# Altium schematic symbol library texas.SCHLIB: 169 symbols (part 2 of 5)
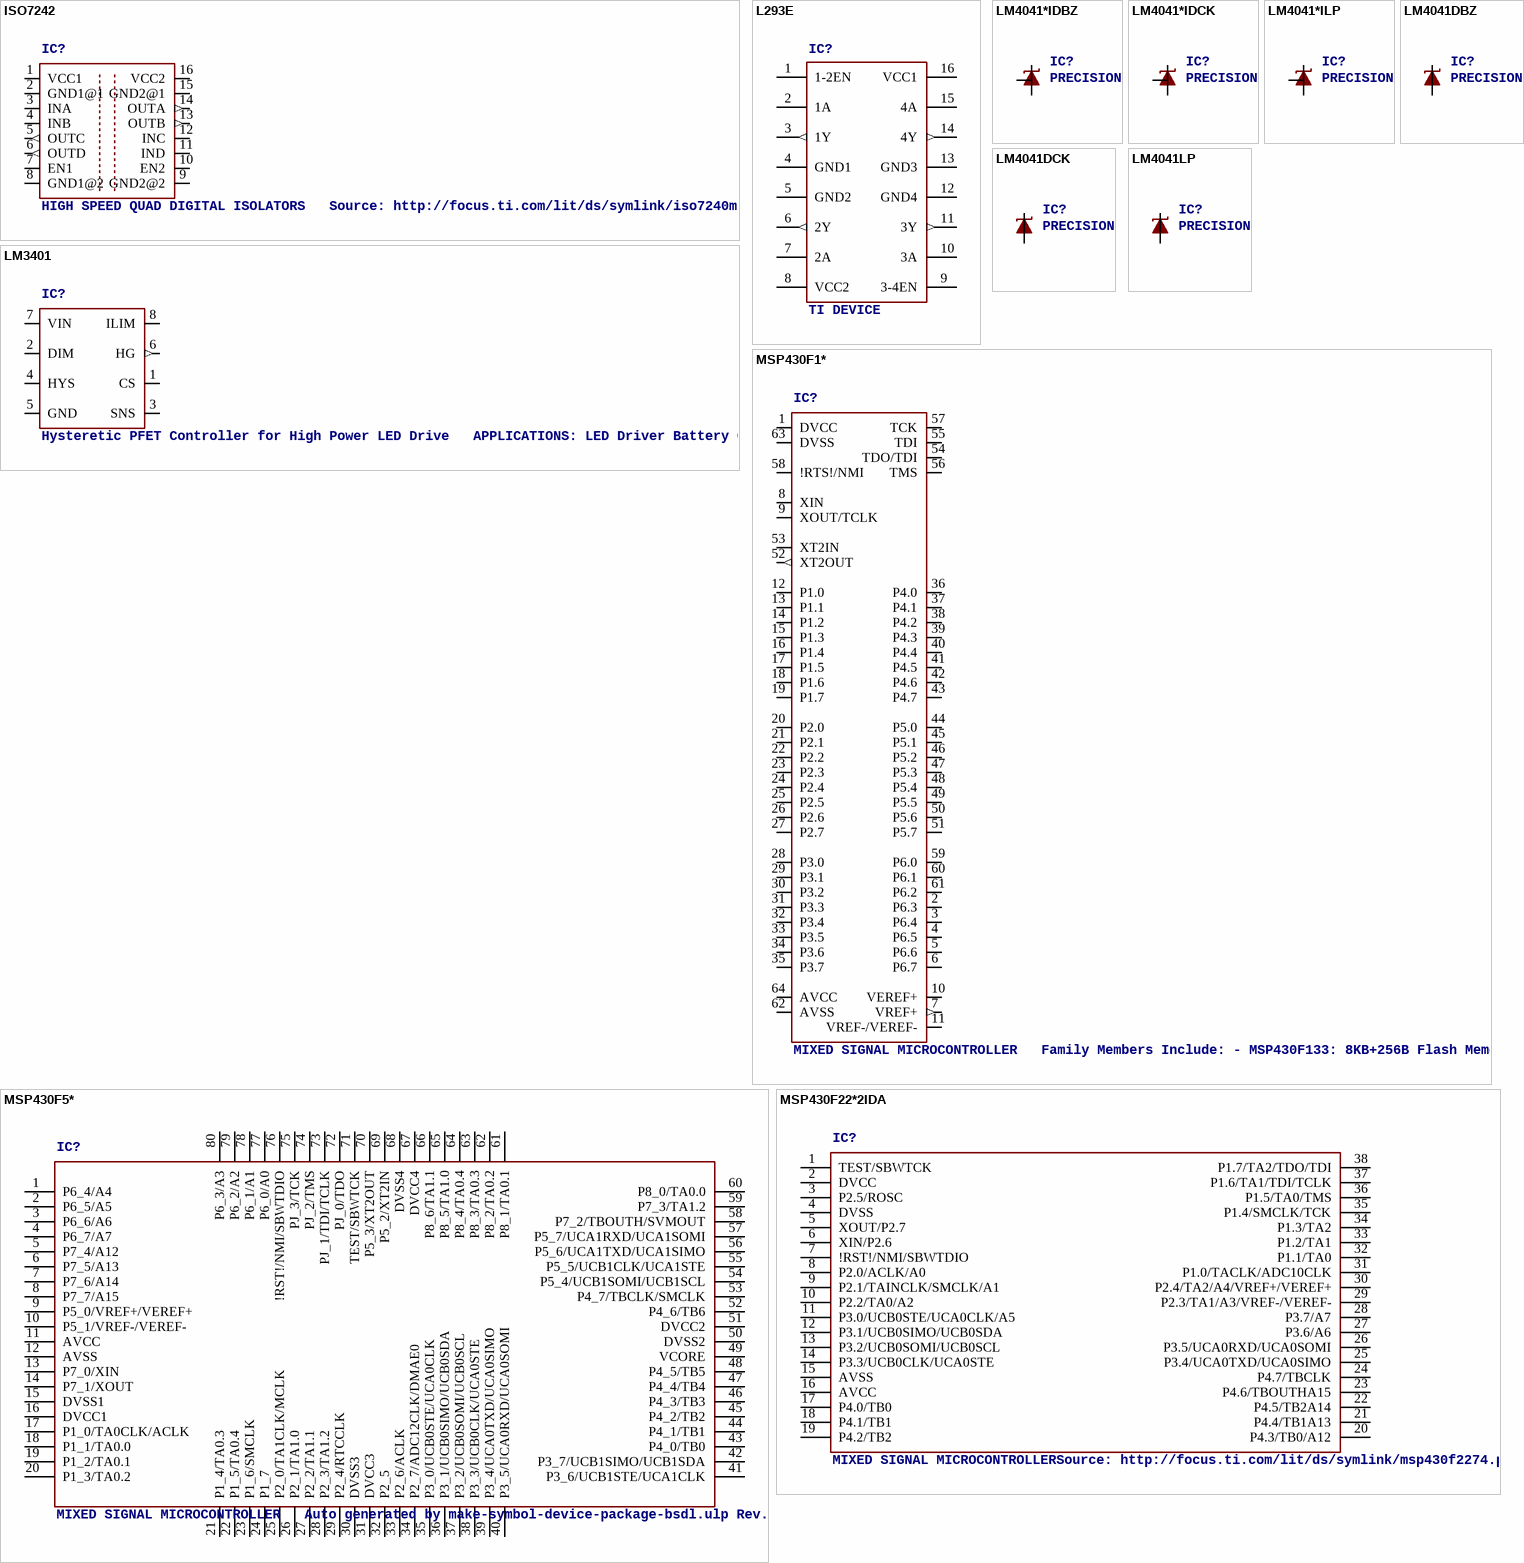
[diagram p32: symbols ISO7242 to MSP430F22*2IDA]

## L293E
designator IC?, comment TI DEVICE
MPN: L293E; MF: Arrow Electronics; OC_FARNELL: 1467711; OC_NEWARK: 89K0732
footprint DIL16
pins: 1 1-2EN, 2 1A, 3 1Y (out), 4 GND1 (power), 5 GND2 (power), 6 2Y (out), 7 2A, 8 VCC2 (power), 9 3-4EN, 10 3A, 11 3Y (out), 12 GND4 (power), 13 GND3 (power), 14 4Y (out), 15 4A, 16 VCC1 (power)

## LM3401
designator IC?, comment Hysteretic PFET Controller for High Power LED Drive   APPLICATIONS: LED Driver Battery Charger   Source: http://www.ti.com/lit/ds/symlink/lm3401.pdf
footprint S-PDSO-G08
pins: 1 CS, 2 DIM, 3 SNS, 4 HYS, 5 GND (power), 6 HG (out), 7 VIN, 8 ILIM

## LM4041*IDBZ
designator IC?, comment PRECISION MICROPOWER SHUNT VOLTAGE REFERENCE Adjustable Output   Source: http://focus.ti.com/lit/ds/slcs146e/slcs146e.pdf
MPN: LM4041CIDBZR; MPN: LM4041DIDBZR; MF: TEXAS INSTRUMENT CONNECTORS; OC_FARNELL: unknown; OC_NEWARK: unknown; OC_NEWARK: 31K7136; OC_FARNELL: 1053788; OC_NEWARK: 31K7146
footprint DBZ_R-PDSO-G3
pins: 1 FB, 2 C, 3 A

## LM4041*IDCK
designator IC?, comment PRECISION MICROPOWER SHUNT VOLTAGE REFERENCE Adjustable Output   Source: http://focus.ti.com/lit/ds/slcs146e/slcs146e.pdf
MPN: LM4041BIDCKRG4; MPN: LM4041CIDCKR; MPN: LM4041DIDCKR; MF: TEXAS INSTRUMENT CONNECTORS; OC_FARNELL: unknown; OC_NEWARK: 41M3455; OC_FARNELL: 1053797; OC_NEWARK: 31K7140; OC_FARNELL: 1053783; OC_NEWARK: 31K7150
footprint DCK_R-PDSO-G5
pins: 2 A, 3 C, 5 FB

## LM4041*ILP
designator IC?, comment PRECISION MICROPOWER SHUNT VOLTAGE REFERENCE Adjustable Output   Source: http://focus.ti.com/lit/ds/slcs146e/slcs146e.pdf
MPN: LM4041CILP; MPN: LM4041DILP; OC_FARNELL: unknown; OC_NEWARK: unknown; OC_FARNELL: 1673945; OC_NEWARK: 50M8856; OC_FARNELL: 9486119; OC_NEWARK: 50M8858
footprint LP_O-PBCY-W3
pins: 1 FB, 2 C, 3 A

## LM4041DBZ
designator IC?, comment PRECISION MICROPOWER SHUNT VOLTAGE REFERENCE   Source: http://focus.ti.com/lit/ds/slcs146e/slcs146e.pdf
MPN: LM4041A12IDBZR; MPN: LM4041B12IDBZR; MPN: LM4041C12QDBZT; MPN: LM4041D12QDBZT; MF: TEXAS INSTRUMENT CONNECTORS; OC_FARNELL: 1407949; OC_NEWARK: 58K5875; OC_FARNELL: 1575212; OC_NEWARK: 58K5882; OC_FARNELL: 1771733; OC_NEWARK: 43K3376; OC_FARNELL: 1755118; OC_NEWARK: 43K3381
footprint DBZ_R-PDSO-G3
pins: 1 C, 2 A

## LM4041DCK
designator IC?, comment PRECISION MICROPOWER SHUNT VOLTAGE REFERENCE   Source: http://focus.ti.com/lit/ds/slcs146e/slcs146e.pdf
MPN: LM4041A12IDCKR; MPN: LM4041B12IDCKR; MPN: LM4041C12IDCKR; MPN: LM4041D12IDCKR; MF: TEXAS INSTRUMENT CONNECTORS; OC_FARNELL: unknown; OC_NEWARK: 58K5877; OC_NEWARK: 58K5884; OC_NEWARK: 43K3374; OC_FARNELL: 1575129; OC_NEWARK: 43K3379
footprint DCK_R-PDSO-G5
pins: 1 A, 3 C

## LM4041LP
designator IC?, comment PRECISION MICROPOWER SHUNT VOLTAGE REFERENCE   Source: http://focus.ti.com/lit/ds/slcs146e/slcs146e.pdf
MPN: LM4041C12ILP; MPN: LM4041D12ILP; OC_FARNELL: 9486119; OC_NEWARK: unknown; OC_FARNELL: unknown; OC_NEWARK: 18M2429; OC_NEWARK: 18M2431
footprint LP_O-PBCY-W3
pins: 2 C, 3 A

## MSP430F1*
designator IC?, comment MIXED SIGNAL MICROCONTROLLER   Family Members Include: - MSP430F133: 8KB+256B Flash Memory, 256B RAM - MSP430F135: 16KB+256B Flash Memory, 512B RAM - MSP430F147, MSP430F1471: 32KB+256B Flash Memory, 1KB RAM - MSP430F148, MSP430F1481: 48KB+256B Flash Memory, 2KB RAM - MSP430F149, MSP430F1491: 60KB+256B Flash Memory, 2KB RAM
MPN: MSP430F133IPM; MPN: MSP430F135IPM; MPN: MSP430F1471IPM; MPN: MSP430F1471IRTDT; MPN: MSP430F1481IPM; MPN: MSP430F1491IRTDT; MPN: MSP430F1491IPM; MF: TEXAS INSTRUMENTS; MF: TEXAS INSTRUMENT CONNECTORS; OC_FARNELL: 1471268; OC_NEWARK: 75C4034; OC_FARNELL: 1106050; OC_NEWARK: 75C4036; OC_FARNELL: 1649389; OC_NEWARK: 95M6746; OC_FARNELL: 1537163; OC_NEWARK: 95M6747; OC_FARNELL: 1649391; OC_NEWARK: 95M6750; OC_FARNELL: 1537170; OC_NEWARK: 95M6752; OC_FARNELL: 1537169; OC_NEWARK: 34K8186
footprint SQFP-S-10X10-64
pins: 1 DVCC (power), 2 P6.3, 3 P6.4, 4 P6.5, 5 P6.6, 6 P6.7, 7 VREF+ (out), 8 XIN, 9 XOUT/TCLK, 10 VEREF+, 11 VREF-/VEREF-, 12 P1.0, 13 P1.1, 14 P1.2, 15 P1.3, 16 P1.4, 17 P1.5, 18 P1.6, 19 P1.7, 20 P2.0, 21 P2.1, 22 P2.2, 23 P2.3, 24 P2.4, 25 P2.5, 26 P2.6, 27 P2.7, 28 P3.0, 29 P3.1, 30 P3.2, 31 P3.3, 32 P3.4, 33 P3.5, 34 P3.6, 35 P3.7, 36 P4.0, 37 P4.1, 38 P4.2, 39 P4.3, 40 P4.4, 41 P4.5, 42 P4.6, 43 P4.7, 44 P5.0, 45 P5.1, 46 P5.2, 47 P5.3, 48 P5.4, 49 P5.5, 50 P5.6, 51 P5.7, 52 XT2OUT (out), 53 XT2IN, 54 TDO/TDI, 55 TDI, 56 TMS, 57 TCK, 58 !RTS!/NMI, 59 P6.0, 60 P6.1, 61 P6.2, 62 AVSS (power), 63 DVSS (power), 64 AVCC (power)

## MSP430F5*
designator IC?, comment MIXED SIGNAL MICROCONTROLLER   Auto generated by make-symbol-device-package-bsdl.ulp Rev. 27 Source: www.ti.com .. msp430f5437.pdf
MPN: MSP430F5418IPN; MPN: MSP430F5418AIPN; MPN: MSP430F5435AIPN; MPN: MSP430F5437IPN; MPN: MSP430F5437AIPN; OC_FARNELL: 1740334; OC_NEWARK: 84R7421; OC_NEWARK: 68R9290; OC_FARNELL: 1740336; OC_NEWARK: 68R9296; OC_FARNELL: 1740339; OC_NEWARK: 87R0103; OC_FARNELL: unknown; OC_NEWARK: 68R9302
footprint PN_S-PQFP-G80
pins: 1 P6_4/A4, 2 P6_5/A5, 3 P6_6/A6, 4 P6_7/A7, 5 P7_4/A12, 6 P7_5/A13, 7 P7_6/A14, 8 P7_7/A15, 9 P5_0/VREF+/VEREF+, 10 P5_1/VREF-/VEREF-, 11 AVCC (power), 12 AVSS (power), 13 P7_0/XIN, 14 P7_1/XOUT, 15 DVSS1 (power), 16 DVCC1 (power), 17 P1_0/TA0CLK/ACLK, 18 P1_1/TA0.0, 19 P1_2/TA0.1, 20 P1_3/TA0.2, 21 P1_4/TA0.3, 22 P1_5/TA0.4, 23 P1_6/SMCLK, 24 P1_7, 25 P2_0/TA1CLK/MCLK, 26 P2_1/TA1.0, 27 P2_2/TA1.1, 28 P2_3/TA1.2, 29 P2_4/RTCCLK, 30 DVSS3 (power), 31 DVCC3 (power), 32 P2_5, 33 P2_6/ACLK, 34 P2_7/ADC12CLK/DMAE0, 35 P3_0/UCB0STE/UCA0CLK, 36 P3_1/UCB0SIMO/UCB0SDA, 37 P3_2/UCB0SOMI/UCB0SCL, 38 P3_3/UCB0CLK/UCA0STE, 39 P3_4/UCA0TXD/UCA0SIMO, 40 P3_5/UCA0RXD/UCA0SOMI, 41 P3_6/UCB1STE/UCA1CLK, 42 P3_7/UCB1SIMO/UCB1SDA, 43 P4_0/TB0, 44 P4_1/TB1, 45 P4_2/TB2, 46 P4_3/TB3, 47 P4_4/TB4, 48 P4_5/TB5, 49 VCORE (power), 50 DVSS2 (power), 51 DVCC2 (power), 52 P4_6/TB6, 53 P4_7/TBCLK/SMCLK, 54 P5_4/UCB1SOMI/UCB1SCL, 55 P5_5/UCB1CLK/UCA1STE, 56 P5_6/UCA1TXD/UCA1SIMO, 57 P5_7/UCA1RXD/UCA1SOMI, 58 P7_2/TBOUTH/SVMOUT, 59 P7_3/TA1.2, 60 P8_0/TA0.0, 61 P8_1/TA0.1, 62 P8_2/TA0.2, 63 P8_3/TA0.3, 64 P8_4/TA0.4, 65 P8_5/TA1.0, 66 P8_6/TA1.1, 67 DVCC4 (power), 68 DVSS4 (power), 69 P5_2/XT2IN, 70 P5_3/XT2OUT, 71 TEST/SBWTCK, 72 PJ_0/TDO, 73 PJ_1/TDI/TCLK, 74 PJ_2/TMS, 75 PJ_3/TCK, 76 !RST!/NMI/SBWTDIO, 77 P6_0/A0, 78 P6_1/A1, 79 P6_2/A2, 80 P6_3/A3

## MSP430F22*2IDA
designator IC?, comment MIXED SIGNAL MICROCONTROLLERSource: http://focus.ti.com/lit/ds/symlink/msp430f2274.pdf
MPN: MSP430F2232IDA; MPN: MSP430F2252IDA; MPN: MSP430F2272IDA; OC_FARNELL: 1610178; OC_NEWARK: 28M6312; OC_FARNELL: 1649421; OC_NEWARK: 28M6328; OC_FARNELL: 1537188; OC_NEWARK: 95M6767
footprint TSSOP38_R-PDSO-G38-DA
pins: 1 TEST/SBWTCK, 2 DVCC (power), 3 P2.5/ROSC, 4 DVSS (power), 5 XOUT/P2.7, 6 XIN/P2.6, 7 !RST!/NMI/SBWTDIO, 8 P2.0/ACLK/A0, 9 P2.1/TAINCLK/SMCLK/A1, 10 P2.2/TA0/A2, 11 P3.0/UCB0STE/UCA0CLK/A5, 12 P3.1/UCB0SIMO/UCB0SDA, 13 P3.2/UCB0SOMI/UCB0SCL, 14 P3.3/UCB0CLK/UCA0STE, 15 AVSS (power), 16 AVCC (power), 17 P4.0/TB0, 18 P4.1/TB1, 19 P4.2/TB2, 20 P4.3/TB0/A12, 21 P4.4/TB1A13, 22 P4.5/TB2A14, 23 P4.6/TBOUTHA15, 24 P4.7/TBCLK, 25 P3.4/UCA0TXD/UCA0SIMO, 26 P3.5/UCA0RXD/UCA0SOMI, 27 P3.6/A6, 28 P3.7/A7, 29 P2.3/TA1/A3/VREF-/VEREF-, 30 P2.4/TA2/A4/VREF+/VEREF+, 31 P1.0/TACLK/ADC10CLK, 32 P1.1/TA0, 33 P1.2/TA1, 34 P1.3/TA2, 35 P1.4/SMCLK/TCK, 36 P1.5/TA0/TMS, 37 P1.6/TA1/TDI/TCLK, 38 P1.7/TA2/TDO/TDI

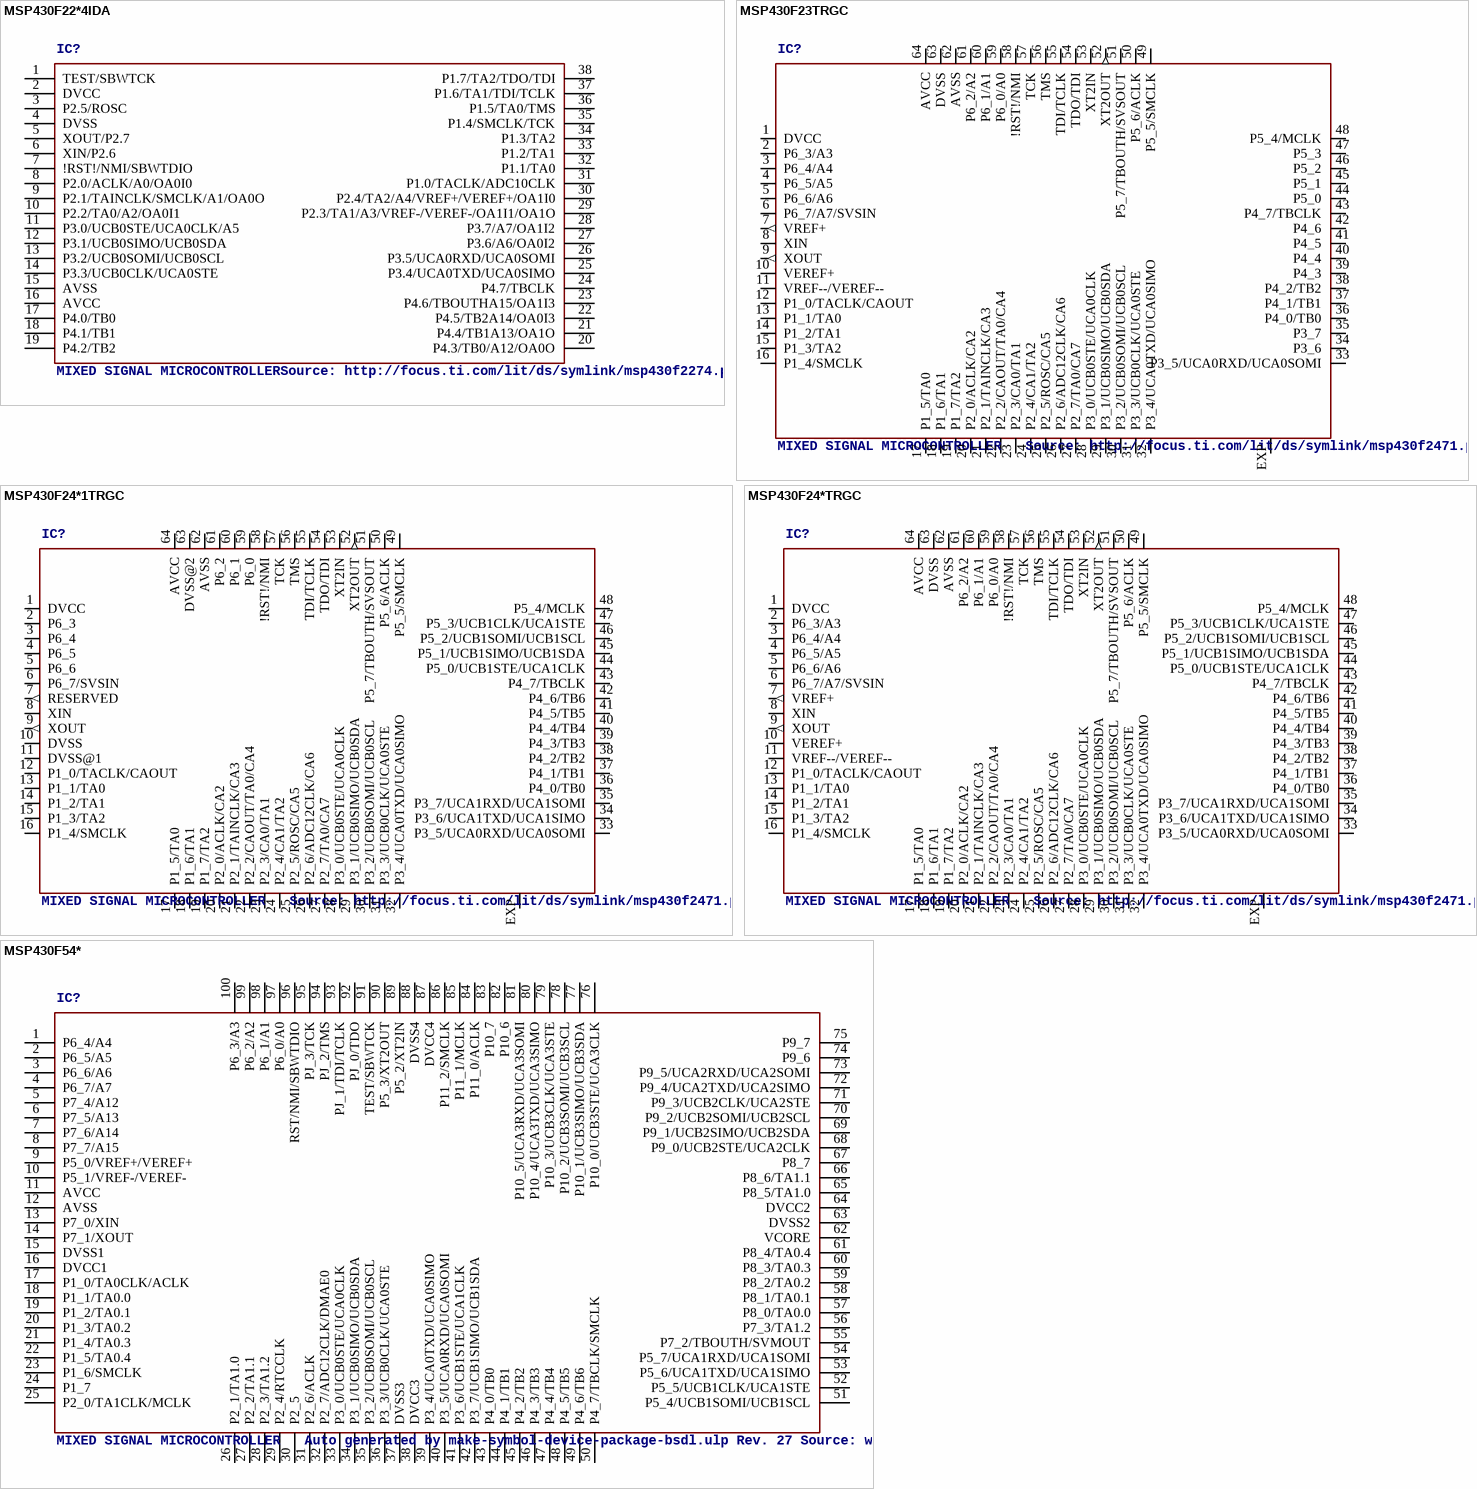
[diagram p10: symbols MSP430F22*4IDA to MSP430F54*]

## MSP430F22*4IDA
designator IC?, comment MIXED SIGNAL MICROCONTROLLERSource: http://focus.ti.com/lit/ds/symlink/msp430f2274.pdf
MPN: MSP430F2234IDA; MPN: MSP430F2254IDA; MPN: MSP430F2274IDA; OC_FARNELL: 1649419; OC_NEWARK: 28M6320; OC_FARNELL: 1649422; OC_NEWARK: 28M6334; OC_FARNELL: 1610179; OC_NEWARK: 28M6350
footprint TSSOP38_R-PDSO-G38-DA
pins: 1 TEST/SBWTCK, 2 DVCC (power), 3 P2.5/ROSC, 4 DVSS (power), 5 XOUT/P2.7, 6 XIN/P2.6, 7 !RST!/NMI/SBWTDIO, 8 P2.0/ACLK/A0/OA0I0, 9 P2.1/TAINCLK/SMCLK/A1/OA0O, 10 P2.2/TA0/A2/OA0I1, 11 P3.0/UCB0STE/UCA0CLK/A5, 12 P3.1/UCB0SIMO/UCB0SDA, 13 P3.2/UCB0SOMI/UCB0SCL, 14 P3.3/UCB0CLK/UCA0STE, 15 AVSS (power), 16 AVCC (power), 17 P4.0/TB0, 18 P4.1/TB1, 19 P4.2/TB2, 20 P4.3/TB0/A12/OA0O, 21 P4.4/TB1A13/OA1O, 22 P4.5/TB2A14/OA0I3, 23 P4.6/TBOUTHA15/OA1I3, 24 P4.7/TBCLK, 25 P3.4/UCA0TXD/UCA0SIMO, 26 P3.5/UCA0RXD/UCA0SOMI, 27 P3.6/A6/OA0I2, 28 P3.7/A7/OA1I2, 29 P2.3/TA1/A3/VREF-/VEREF-/OA1I1/OA1O, 30 P2.4/TA2/A4/VREF+/VEREF+/OA1I0, 31 P1.0/TACLK/ADC10CLK, 32 P1.1/TA0, 33 P1.2/TA1, 34 P1.3/TA2, 35 P1.4/SMCLK/TCK, 36 P1.5/TA0/TMS, 37 P1.6/TA1/TDI/TCLK, 38 P1.7/TA2/TDO/TDI

## MSP430F23TRGC
designator IC?, comment MIXED SIGNAL MICROCONTROLLER   Source: http://focus.ti.com/lit/ds/symlink/msp430f2471.pdf
MPN: MSP430F233TRGCT; MPN: MSP430F235TRGCT; OC_FARNELL: 1649429; OC_NEWARK: 65M1697; OC_FARNELL: 1649433; OC_NEWARK: 65M1700
footprint RGC_S-PVQFV-N64
pins: 1 DVCC (power), 2 P6_3/A3, 3 P6_4/A4, 4 P6_5/A5, 5 P6_6/A6, 6 P6_7/A7/SVSIN, 7 VREF+ (out), 8 XIN, 9 XOUT (out), 10 VEREF+, 11 VREF--/VEREF--, 12 P1_0/TACLK/CAOUT, 13 P1_1/TA0, 14 P1_2/TA1, 15 P1_3/TA2, 16 P1_4/SMCLK, 17 P1_5/TA0, 18 P1_6/TA1, 19 P1_7/TA2, 20 P2_0/ACLK/CA2, 21 P2_1/TAINCLK/CA3, 22 P2_2/CAOUT/TA0/CA4, 23 P2_3/CA0/TA1, 24 P2_4/CA1/TA2, 25 P2_5/ROSC/CA5, 26 P2_6/ADC12CLK/CA6, 27 P2_7/TA0/CA7, 28 P3_0/UCB0STE/UCA0CLK, 29 P3_1/UCB0SIMO/UCB0SDA, 30 P3_2/UCB0SOMI/UCB0SCL, 31 P3_3/UCB0CLK/UCA0STE, 32 P3_4/UCA0TXD/UCA0SIMO, 33 P3_5/UCA0RXD/UCA0SOMI, 34 P3_6, 35 P3_7, 36 P4_0/TB0, 37 P4_1/TB1, 38 P4_2/TB2, 39 P4_3, 40 P4_4, 41 P4_5, 42 P4_6, 43 P4_7/TBCLK, 44 P5_0, 45 P5_1, 46 P5_2, 47 P5_3, 48 P5_4/MCLK, 49 P5_5/SMCLK, 50 P5_6/ACLK, 51 P5_7/TBOUTH/SVSOUT, 52 XT2OUT (out), 53 XT2IN, 54 TDO/TDI, 55 TDI/TCLK, 56 TMS, 57 TCK, 58 !RST!/NMI, 59 P6_0/A0, 60 P6_1/A1, 61 P6_2/A2, 62 AVSS (power), 63 DVSS (power), 64 AVCC (power), EXP

## MSP430F24*1TRGC
designator IC?, comment MIXED SIGNAL MICROCONTROLLER   Source: http://focus.ti.com/lit/ds/symlink/msp430f2471.pdf
MPN: MSP430F2491TRGCT; OC_FARNELL: unknown; OC_NEWARK: unknown; OC_FARNELL: 1753309; OC_FARNELL: 1649447; OC_NEWARK: 65M1728
footprint RGC_S-PVQFV-N64
pins: 1 DVCC (power), 2 P6_3, 3 P6_4, 4 P6_5, 5 P6_6, 6 P6_7/SVSIN, 7 RESERVED (out), 8 XIN, 9 XOUT (out), 10 DVSS, 11 DVSS@1, 12 P1_0/TACLK/CAOUT, 13 P1_1/TA0, 14 P1_2/TA1, 15 P1_3/TA2, 16 P1_4/SMCLK, 17 P1_5/TA0, 18 P1_6/TA1, 19 P1_7/TA2, 20 P2_0/ACLK/CA2, 21 P2_1/TAINCLK/CA3, 22 P2_2/CAOUT/TA0/CA4, 23 P2_3/CA0/TA1, 24 P2_4/CA1/TA2, 25 P2_5/ROSC/CA5, 26 P2_6/ADC12CLK/CA6, 27 P2_7/TA0/CA7, 28 P3_0/UCB0STE/UCA0CLK, 29 P3_1/UCB0SIMO/UCB0SDA, 30 P3_2/UCB0SOMI/UCB0SCL, 31 P3_3/UCB0CLK/UCA0STE, 32 P3_4/UCA0TXD/UCA0SIMO, 33 P3_5/UCA0RXD/UCA0SOMI, 34 P3_6/UCA1TXD/UCA1SIMO, 35 P3_7/UCA1RXD/UCA1SOMI, 36 P4_0/TB0, 37 P4_1/TB1, 38 P4_2/TB2, 39 P4_3/TB3, 40 P4_4/TB4, 41 P4_5/TB5, 42 P4_6/TB6, 43 P4_7/TBCLK, 44 P5_0/UCB1STE/UCA1CLK, 45 P5_1/UCB1SIMO/UCB1SDA, 46 P5_2/UCB1SOMI/UCB1SCL, 47 P5_3/UCB1CLK/UCA1STE, 48 P5_4/MCLK, 49 P5_5/SMCLK, 50 P5_6/ACLK, 51 P5_7/TBOUTH/SVSOUT, 52 XT2OUT (out), 53 XT2IN, 54 TDO/TDI, 55 TDI/TCLK, 56 TMS, 57 TCK, 58 !RST!/NMI, 59 P6_0, 60 P6_1, 61 P6_2, 62 AVSS (power), 63 DVSS@2 (power), 64 AVCC (power), EXP

## MSP430F24*TRGC
designator IC?, comment MIXED SIGNAL MICROCONTROLLER   Source: http://focus.ti.com/lit/ds/symlink/msp430f2471.pdf
MPN: MSP430F2410TRGCT; OC_FARNELL: 1649436; OC_NEWARK: 65M1704; OC_FARNELL: unknown; OC_NEWARK: unknown
footprint RGC_S-PVQFV-N64
pins: 1 DVCC (power), 2 P6_3/A3, 3 P6_4/A4, 4 P6_5/A5, 5 P6_6/A6, 6 P6_7/A7/SVSIN, 7 VREF+ (out), 8 XIN, 9 XOUT (out), 10 VEREF+, 11 VREF--/VEREF--, 12 P1_0/TACLK/CAOUT, 13 P1_1/TA0, 14 P1_2/TA1, 15 P1_3/TA2, 16 P1_4/SMCLK, 17 P1_5/TA0, 18 P1_6/TA1, 19 P1_7/TA2, 20 P2_0/ACLK/CA2, 21 P2_1/TAINCLK/CA3, 22 P2_2/CAOUT/TA0/CA4, 23 P2_3/CA0/TA1, 24 P2_4/CA1/TA2, 25 P2_5/ROSC/CA5, 26 P2_6/ADC12CLK/CA6, 27 P2_7/TA0/CA7, 28 P3_0/UCB0STE/UCA0CLK, 29 P3_1/UCB0SIMO/UCB0SDA, 30 P3_2/UCB0SOMI/UCB0SCL, 31 P3_3/UCB0CLK/UCA0STE, 32 P3_4/UCA0TXD/UCA0SIMO, 33 P3_5/UCA0RXD/UCA0SOMI, 34 P3_6/UCA1TXD/UCA1SIMO, 35 P3_7/UCA1RXD/UCA1SOMI, 36 P4_0/TB0, 37 P4_1/TB1, 38 P4_2/TB2, 39 P4_3/TB3, 40 P4_4/TB4, 41 P4_5/TB5, 42 P4_6/TB6, 43 P4_7/TBCLK, 44 P5_0/UCB1STE/UCA1CLK, 45 P5_1/UCB1SIMO/UCB1SDA, 46 P5_2/UCB1SOMI/UCB1SCL, 47 P5_3/UCB1CLK/UCA1STE, 48 P5_4/MCLK, 49 P5_5/SMCLK, 50 P5_6/ACLK, 51 P5_7/TBOUTH/SVSOUT, 52 XT2OUT (out), 53 XT2IN, 54 TDO/TDI, 55 TDI/TCLK, 56 TMS, 57 TCK, 58 !RST!/NMI, 59 P6_0/A0, 60 P6_1/A1, 61 P6_2/A2, 62 AVSS (power), 63 DVSS (power), 64 AVCC (power), EXP

## MSP430F54*
designator IC?, comment MIXED SIGNAL MICROCONTROLLER   Auto generated by make-symbol-device-package-bsdl.ulp Rev. 27 Source: www.ti.com .. msp430f5437.pdf
MPN: MSP430F5419IPZR; MPN: MSP430F5436IPZ; MPN: MSP430F5436AIPZ; MPN: MSP430F5438IPZ; MPN: MSP430F5438AIPZ; OC_FARNELL: 1740335; OC_NEWARK: 12P7733; OC_FARNELL: unknown; OC_NEWARK: unknown; OC_FARNELL: 1740338; OC_NEWARK: 86R1301; OC_NEWARK: 68R9298; OC_FARNELL: 1740340; OC_NEWARK: 77R3126; OC_NEWARK: 68R9304
footprint PZ_S-PQFP-G100
pins: 1 P6_4/A4, 2 P6_5/A5, 3 P6_6/A6, 4 P6_7/A7, 5 P7_4/A12, 6 P7_5/A13, 7 P7_6/A14, 8 P7_7/A15, 9 P5_0/VREF+/VEREF+, 10 P5_1/VREF-/VEREF-, 11 AVCC (power), 12 AVSS (power), 13 P7_0/XIN, 14 P7_1/XOUT, 15 DVSS1 (power), 16 DVCC1 (power), 17 P1_0/TA0CLK/ACLK, 18 P1_1/TA0.0, 19 P1_2/TA0.1, 20 P1_3/TA0.2, 21 P1_4/TA0.3, 22 P1_5/TA0.4, 23 P1_6/SMCLK, 24 P1_7, 25 P2_0/TA1CLK/MCLK, 26 P2_1/TA1.0, 27 P2_2/TA1.1, 28 P2_3/TA1.2, 29 P2_4/RTCCLK, 30 P2_5, 31 P2_6/ACLK, 32 P2_7/ADC12CLK/DMAE0, 33 P3_0/UCB0STE/UCA0CLK, 34 P3_1/UCB0SIMO/UCB0SDA, 35 P3_2/UCB0SOMI/UCB0SCL, 36 P3_3/UCB0CLK/UCA0STE, 37 DVSS3 (power), 38 DVCC3 (power), 39 P3_4/UCA0TXD/UCA0SIMO, 40 P3_5/UCA0RXD/UCA0SOMI, 41 P3_6/UCB1STE/UCA1CLK, 42 P3_7/UCB1SIMO/UCB1SDA, 43 P4_0/TB0, 44 P4_1/TB1, 45 P4_2/TB2, 46 P4_3/TB3, 47 P4_4/TB4, 48 P4_5/TB5, 49 P4_6/TB6, 50 P4_7/TBCLK/SMCLK, 51 P5_4/UCB1SOMI/UCB1SCL, 52 P5_5/UCB1CLK/UCA1STE, 53 P5_6/UCA1TXD/UCA1SIMO, 54 P5_7/UCA1RXD/UCA1SOMI, 55 P7_2/TBOUTH/SVMOUT, 56 P7_3/TA1.2, 57 P8_0/TA0.0, 58 P8_1/TA0.1, 59 P8_2/TA0.2, 60 P8_3/TA0.3, 61 P8_4/TA0.4, 62 VCORE (power), 63 DVSS2 (power), 64 DVCC2 (power), 65 P8_5/TA1.0, 66 P8_6/TA1.1, 67 P8_7, 68 P9_0/UCB2STE/UCA2CLK, 69 P9_1/UCB2SIMO/UCB2SDA, 70 P9_2/UCB2SOMI/UCB2SCL, 71 P9_3/UCB2CLK/UCA2STE, 72 P9_4/UCA2TXD/UCA2SIMO, 73 P9_5/UCA2RXD/UCA2SOMI, 74 P9_6, 75 P9_7, 76 P10_0/UCB3STE/UCA3CLK, 77 P10_1/UCB3SIMO/UCB3SDA, 78 P10_2/UCB3SOMI/UCB3SCL, 79 P10_3/UCB3CLK/UCA3STE, 80 P10_4/UCA3TXD/UCA3SIMO, 81 P10_5/UCA3RXD/UCA3SOMI, 82 P10_6, 83 P10_7, 84 P11_0/ACLK, 85 P11_1/MCLK, 86 P11_2/SMCLK, 87 DVCC4 (power), 88 DVSS4 (power), 89 P5_2/XT2IN, 90 P5_3/XT2OUT, 91 TEST/SBWTCK, 92 PJ_0/TDO, 93 PJ_1/TDI/TCLK, 94 PJ_2/TMS, 95 PJ_3/TCK, 96 RST/NMI/SBWTDIO, 97 P6_0/A0, 98 P6_1/A1, 99 P6_2/A2, 100 P6_3/A3

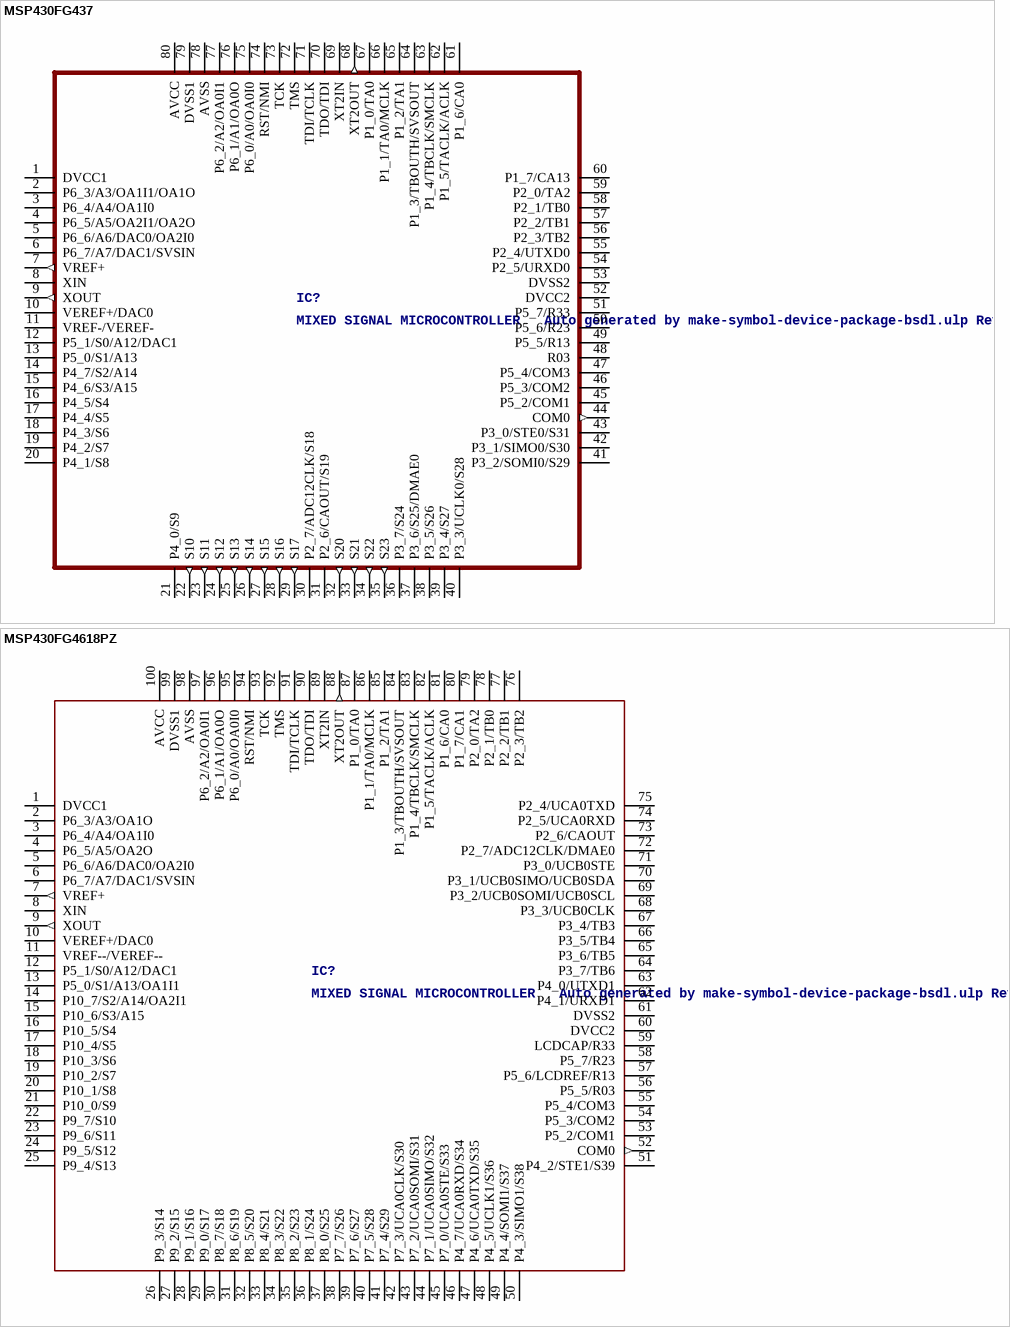
[diagram p11: symbols MSP430FG437 to MSP430FG4618PZ]

## MSP430FG437
designator IC?, comment MIXED SIGNAL MICROCONTROLLER   Auto generated by make-symbol-device-package-bsdl.ulp Rev. 29 Source: http://focus.ti.com/lit/ds/symlink/msp430fg437.pdf
MPN: MSP430FG437IPN; OC_FARNELL: 1471275; OC_NEWARK: 61M7844
footprint PN_S-PQFP-G80
pins: 1 DVCC1 (power), 2 P6_3/A3/OA1I1/OA1O, 3 P6_4/A4/OA1I0, 4 P6_5/A5/OA2I1/OA2O, 5 P6_6/A6/DAC0/OA2I0, 6 P6_7/A7/DAC1/SVSIN, 7 VREF+ (out), 8 XIN, 9 XOUT (out), 10 VEREF+/DAC0, 11 VREF-/VEREF-, 12 P5_1/S0/A12/DAC1, 13 P5_0/S1/A13, 14 P4_7/S2/A14, 15 P4_6/S3/A15, 16 P4_5/S4, 17 P4_4/S5, 18 P4_3/S6, 19 P4_2/S7, 20 P4_1/S8, 21 P4_0/S9, 22 S10 (out), 23 S11 (out), 24 S12 (out), 25 S13 (out), 26 S14 (out), 27 S15 (out), 28 S16 (out), 29 S17 (out), 30 P2_7/ADC12CLK/S18, 31 P2_6/CAOUT/S19, 32 S20 (out), 33 S21 (out), 34 S22 (out), 35 S23 (out), 36 P3_7/S24, 37 P3_6/S25/DMAE0, 38 P3_5/S26, 39 P3_4/S27, 40 P3_3/UCLK0/S28, 41 P3_2/SOMI0/S29, 42 P3_1/SIMO0/S30, 43 P3_0/STE0/S31, 44 COM0 (out), 45 P5_2/COM1, 46 P5_3/COM2, 47 P5_4/COM3, 48 R03, 49 P5_5/R13, 50 P5_6/R23, 51 P5_7/R33, 52 DVCC2 (power), 53 DVSS2 (power), 54 P2_5/URXD0, 55 P2_4/UTXD0, 56 P2_3/TB2, 57 P2_2/TB1, 58 P2_1/TB0, 59 P2_0/TA2, 60 P1_7/CA13, 61 P1_6/CA0, 62 P1_5/TACLK/ACLK, 63 P1_4/TBCLK/SMCLK, 64 P1_3/TBOUTH/SVSOUT, 65 P1_2/TA1, 66 P1_1/TA0/MCLK, 67 P1_0/TA0, 68 XT2OUT (out), 69 XT2IN, 70 TDO/TDI, 71 TDI/TCLK, 72 TMS, 73 TCK, 74 RST/NMI, 75 P6_0/A0/OA0I0, 76 P6_1/A1/OA0O, 77 P6_2/A2/OA0I1, 78 AVSS (power), 79 DVSS1 (power), 80 AVCC (power)

## MSP430FG4618PZ
designator IC?, comment MIXED SIGNAL MICROCONTROLLER   Auto generated by make-symbol-device-package-bsdl.ulp Rev. 19 Source: http://focus.ti.com/docs/prod/folders/print/msp430fg4618.html
MPN: MSP430FG4618IPZ; OC_FARNELL: 1470488; OC_NEWARK: 22M1151
footprint TQFP100
pins: 1 DVCC1 (power), 2 P6_3/A3/OA1O, 3 P6_4/A4/OA1I0, 4 P6_5/A5/OA2O, 5 P6_6/A6/DAC0/OA2I0, 6 P6_7/A7/DAC1/SVSIN, 7 VREF+ (out), 8 XIN, 9 XOUT (out), 10 VEREF+/DAC0, 11 VREF--/VEREF--, 12 P5_1/S0/A12/DAC1, 13 P5_0/S1/A13/OA1I1, 14 P10_7/S2/A14/OA2I1, 15 P10_6/S3/A15, 16 P10_5/S4, 17 P10_4/S5, 18 P10_3/S6, 19 P10_2/S7, 20 P10_1/S8, 21 P10_0/S9, 22 P9_7/S10, 23 P9_6/S11, 24 P9_5/S12, 25 P9_4/S13, 26 P9_3/S14, 27 P9_2/S15, 28 P9_1/S16, 29 P9_0/S17, 30 P8_7/S18, 31 P8_6/S19, 32 P8_5/S20, 33 P8_4/S21, 34 P8_3/S22, 35 P8_2/S23, 36 P8_1/S24, 37 P8_0/S25, 38 P7_7/S26, 39 P7_6/S27, 40 P7_5/S28, 41 P7_4/S29, 42 P7_3/UCA0CLK/S30, 43 P7_2/UCA0SOMI/S31, 44 P7_1/UCA0SIMO/S32, 45 P7_0/UCA0STE/S33, 46 P4_7/UCA0RXD/S34, 47 P4_6/UCA0TXD/S35, 48 P4_5/UCLK1/S36, 49 P4_4/SOMI1/S37, 50 P4_3/SIMO1/S38, 51 P4_2/STE1/S39, 52 COM0 (out), 53 P5_2/COM1, 54 P5_3/COM2, 55 P5_4/COM3, 56 P5_5/R03, 57 P5_6/LCDREF/R13, 58 P5_7/R23, 59 LCDCAP/R33, 60 DVCC2 (power), 61 DVSS2 (power), 62 P4_1/URXD1, 63 P4_0/UTXD1, 64 P3_7/TB6, 65 P3_6/TB5, 66 P3_5/TB4, 67 P3_4/TB3, 68 P3_3/UCB0CLK, 69 P3_2/UCB0SOMI/UCB0SCL, 70 P3_1/UCB0SIMO/UCB0SDA, 71 P3_0/UCB0STE, 72 P2_7/ADC12CLK/DMAE0, 73 P2_6/CAOUT, 74 P2_5/UCA0RXD, 75 P2_4/UCA0TXD, 76 P2_3/TB2, 77 P2_2/TB1, 78 P2_1/TB0, 79 P2_0/TA2, 80 P1_7/CA1, 81 P1_6/CA0, 82 P1_5/TACLK/ACLK, 83 P1_4/TBCLK/SMCLK, 84 P1_3/TBOUTH/SVSOUT, 85 P1_2/TA1, 86 P1_1/TA0/MCLK, 87 P1_0/TA0, 88 XT2OUT (out), 89 XT2IN, 90 TDO/TDI, 91 TDI/TCLK, 92 TMS, 93 TCK, 94 RST/NMI, 95 P6_0/A0/OA0I0, 96 P6_1/A1/OA0O, 97 P6_2/A2/OA0I1, 98 AVSS (power), 99 DVSS1 (power), 100 AVCC (power)

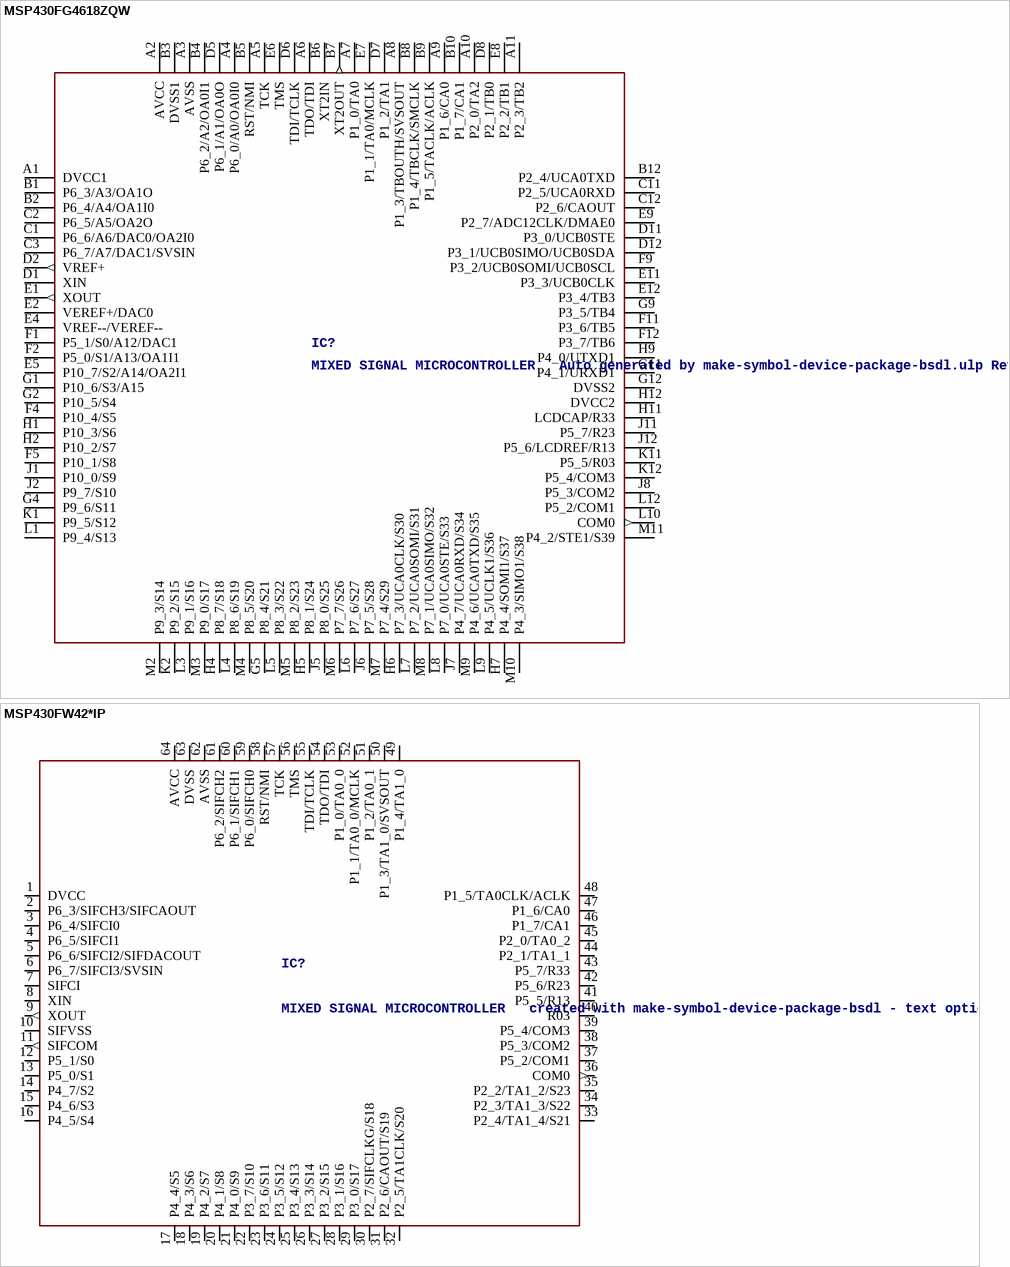
[diagram p12: symbols MSP430FG4618ZQW to MSP430FW42*IP]

## MSP430FG4618ZQW
designator IC?, comment MIXED SIGNAL MICROCONTROLLER   Auto generated by make-symbol-device-package-bsdl.ulp Rev. 19 Source: http://focus.ti.com/docs/prod/folders/print/msp430fg4618.html
MPN: MSP430FG4618IZQW; OC_FARNELL: unknown; OC_NEWARK: 61M7852
footprint S-PBGA-N113
pins: A1 DVCC1 (power), A2 AVCC (power), A3 AVSS (power), A4 P6_0/A0/OA0I0, A5 TCK, A6 TDO/TDI, A7 P1_0/TA0, A8 P1_3/TBOUTH/SVSOUT, A9 P1_6/CA0, A10 P2_0/TA2, A11 P2_3/TB2, B1 P6_3/A3/OA1O, B2 P6_4/A4/OA1I0, B3 DVSS1 (power), B4 P6_2/A2/OA0I1, B5 RST/NMI, B6 XT2IN, B7 XT2OUT (out), B8 P1_4/TBCLK/SMCLK, B9 P1_5/TACLK/ACLK, B10 P1_7/CA1, B12 P2_4/UCA0TXD, C1 P6_6/A6/DAC0/OA2I0, C2 P6_5/A5/OA2O, C3 P6_7/A7/DAC1/SVSIN, C11 P2_5/UCA0RXD, C12 P2_6/CAOUT, D1 XIN, D2 VREF+ (out), D5 P6_1/A1/OA0O, D6 TDI/TCLK, D7 P1_2/TA1, D8 P2_1/TB0, D11 P3_0/UCB0STE, D12 P3_1/UCB0SIMO/UCB0SDA, E1 XOUT (out), E2 VEREF+/DAC0, E4 VREF--/VEREF--, E5 P10_7/S2/A14/OA2I1, E6 TMS, E7 P1_1/TA0/MCLK, E8 P2_2/TB1, E9 P2_7/ADC12CLK/DMAE0, E11 P3_3/UCB0CLK, E12 P3_4/TB3, F1 P5_1/S0/A12/DAC1, F2 P5_0/S1/A13/OA1I1, F4 P10_4/S5, F5 P10_1/S8, F9 P3_2/UCB0SOMI/UCB0SCL, F11 P3_6/TB5, F12 P3_7/TB6, G1 P10_6/S3/A15, G2 P10_5/S4, G4 P9_6/S11, G5 P8_4/S21, G9 P3_5/TB4, G11 P4_1/URXD1, G12 DVSS2 (power), H1 P10_3/S6, H2 P10_2/S7, H4 P8_7/S18, H5 P8_1/S24, H6 P7_3/UCA0CLK/S30, H7 P4_4/SOMI1/S37, H9 P4_0/UTXD1, H11 LCDCAP/R33, H12 DVCC2 (power), J1 P10_0/S9, J2 P9_7/S10, J5 P8_0/S25, J6 P7_5/S28, J7 P4_7/UCA0RXD/S34, J8 P5_3/COM2, J11 P5_7/R23, J12 P5_6/LCDREF/R13, K1 P9_5/S12, K2 P9_2/S15, K11 P5_5/R03, K12 P5_4/COM3, L1 P9_4/S13, L3 P9_1/S16, L4 P8_6/S19, L5 P8_3/S22, L6 P7_6/S27, L7 P7_2/UCA0SOMI/S31, L8 P7_0/UCA0STE/S33, L9 P4_5/UCLK1/S36, L10 COM0 (out), L12 P5_2/COM1, M2 P9_3/S14, M3 P9_0/S17, M4 P8_5/S20, M5 P8_2/S23, M6 P7_7/S26, M7 P7_4/S29, M8 P7_1/UCA0SIMO/S32, M9 P4_6/UCA0TXD/S35, M10 P4_3/SIMO1/S38, M11 P4_2/STE1/S39

## MSP430FW42*IP
designator IC?, comment MIXED SIGNAL MICROCONTROLLER   created with make-symbol-device-package-bsdl - text option Source: www.ti.com .. MSP430 Microcontroller.pdf
OC_FARNELL: unknown; OC_NEWARK: unknown
footprint SQFP-S-10X10-64
pins: 1 DVCC (power), 2 P6_3/SIFCH3/SIFCAOUT, 3 P6_4/SIFCI0, 4 P6_5/SIFCI1, 5 P6_6/SIFCI2/SIFDACOUT, 6 P6_7/SIFCI3/SVSIN, 7 SIFCI, 8 XIN, 9 XOUT (out), 10 SIFVSS, 11 SIFCOM (out), 12 P5_1/S0, 13 P5_0/S1, 14 P4_7/S2, 15 P4_6/S3, 16 P4_5/S4, 17 P4_4/S5, 18 P4_3/S6, 19 P4_2/S7, 20 P4_1/S8, 21 P4_0/S9, 22 P3_7/S10, 23 P3_6/S11, 24 P3_5/S12, 25 P3_4/S13, 26 P3_3/S14, 27 P3_2/S15, 28 P3_1/S16, 29 P3_0/S17, 30 P2_7/SIFCLKG/S18, 31 P2_6/CAOUT/S19, 32 P2_5/TA1CLK/S20, 33 P2_4/TA1_4/S21, 34 P2_3/TA1_3/S22, 35 P2_2/TA1_2/S23, 36 COM0 (out), 37 P5_2/COM1, 38 P5_3/COM2, 39 P5_4/COM3, 40 R03, 41 P5_5/R13, 42 P5_6/R23, 43 P5_7/R33, 44 P2_1/TA1_1, 45 P2_0/TA0_2, 46 P1_7/CA1, 47 P1_6/CA0, 48 P1_5/TA0CLK/ACLK, 49 P1_4/TA1_0, 50 P1_3/TA1_0/SVSOUT, 51 P1_2/TA0_1, 52 P1_1/TA0_0/MCLK, 53 P1_0/TA0_0, 54 TDO/TDI, 55 TDI/TCLK, 56 TMS, 57 TCK, 58 RST/NMI, 59 P6_0/SIFCH0, 60 P6_1/SIFCH1, 61 P6_2/SIFCH2, 62 AVSS (power), 63 DVSS (power), 64 AVCC (power)

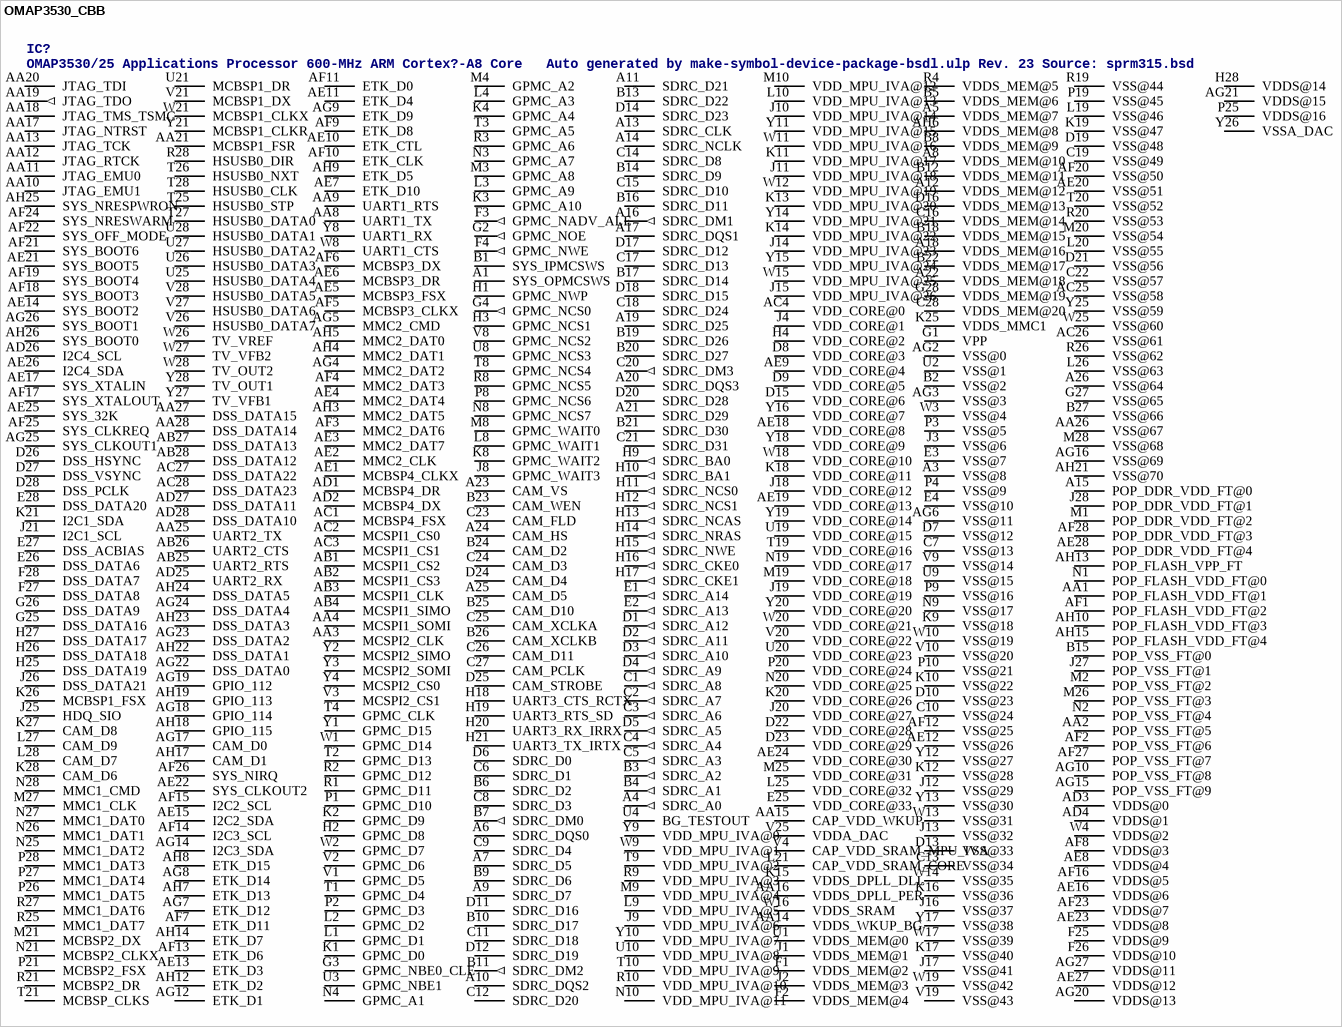
[diagram p13: symbol OMAP3530_CBB]

## OMAP3530_CBB
designator IC?, comment OMAP3530/25 Applications Processor 600-MHz ARM Cortex?-A8 Core   Auto generated by make-symbol-device-package-bsdl.ulp Rev. 23 Source: sprm315.bsd
OC_FARNELL: 1660215; OC_NEWARK: unknown
footprint CBB
pins: A1 SYS_OPMCSWS, A3 VSS@8 (power), A4 SDRC_A0 (out), A5 VDDS_MEM@7 (power), A6 SDRC_DQS0, A7 SDRC_D5, A8 VDDS_MEM@10 (power), A9 SDRC_D7, A10 SDRC_DQS2, A11 SDRC_D21, A12 VDDS_MEM@12 (power), A13 SDRC_CLK, A14 SDRC_NCLK, A15 POP_DDR_VDD_FT@0 (power), A16 SDRC_DM1 (out), A17 SDRC_DQS1, A18 VDDS_MEM@16 (power), A19 SDRC_D25, A20 SDRC_DQS3, A21 SDRC_D29, A22 VDDS_MEM@18 (power), A23 CAM_VS, A24 CAM_HS, A25 CAM_D5, A26 VSS@64 (power), AA1 POP_FLASH_VDD_FT@1 (power), AA2 POP_VSS_FT@5 (power), AA3 MCSPI2_CLK, AA4 MCSPI1_SOMI, AA8 UART1_TX, AA9 UART1_RTS, AA10 JTAG_EMU1, AA11 JTAG_EMU0, AA12 JTAG_RTCK, AA13 JTAG_TCK, AA14 VDDS_WKUP_BG (power), AA15 CAP_VDD_WKUP (power), AA16 VDDS_DPLL_PER (power), AA17 JTAG_NTRST, AA18 JTAG_TMS_TSMC, AA19 JTAG_TDO (out), AA20 JTAG_TDI, AA21 MCBSP1_FSR, AA25 UART2_TX, AA26 VSS@67 (power), AA27 DSS_DATA15, AA28 DSS_DATA14, AB1 MCSPI1_CS2, AB2 MCSPI1_CS3, AB3 MCSPI1_CLK, AB4 MCSPI1_SIMO, AB25 UART2_RTS, AB26 UART2_CTS, AB27 DSS_DATA13, AB28 DSS_DATA12, AC1 MCBSP4_FSX, AC2 MCSPI1_CS0, AC3 MCSPI1_CS1, AC4 VDD_CORE@0 (power), AC25 VSS@58 (power), AC26 VSS@61 (power), AC27 DSS_DATA22, AC28 DSS_DATA23, AD1 MCBSP4_DR, AD2 MCBSP4_DX, AD3 VDDS@0 (power), AD4 VDDS@1 (power), AD25 UART2_RX, AD26 I2C4_SCL, AD27 DSS_DATA11, AD28 DSS_DATA10, AE1 MCBSP4_CLKX, AE2 MMC2_CLK, AE3 MMC2_DAT7, AE4 MMC2_DAT4, AE5 MCBSP3_FSX, AE6 MCBSP3_DR, AE7 ETK_D10, AE8 VDDS@4 (power), AE9 VDD_CORE@4 (power), AE10 ETK_CTL, AE11 ETK_D4, AE12 VSS@26 (power), AE13 ETK_D3, AE14 SYS_BOOT2, AE15 I2C2_SDA, AE16 VDDS@6 (power), AE17 SYS_XTALIN, AE18 VDD_CORE@8 (power), AE19 VDD_CORE@13 (power), AE20 VSS@51 (power), AE21 SYS_BOOT5, AE22 SYS_CLKOUT2, AE23 VDDS@8 (power), AE24 VDD_CORE@30 (power), AE25 SYS_32K, AE26 I2C4_SDA, AE27 VDDS@12 (power), AE28 POP_DDR_VDD_FT@4 (power), AF1 POP_FLASH_VDD_FT@2 (power), AF2 POP_VSS_FT@6 (power), AF3 MMC2_DAT6, AF4 MMC2_DAT3, AF5 MCBSP3_CLKX, AF6 MCBSP3_DX, AF7 ETK_D11, AF8 VDDS@3 (power), AF9 ETK_D8, AF10 ETK_CLK, AF11 ETK_D0, AF12 VSS@25 (power), AF13 ETK_D6, AF14 I2C3_SCL, AF15 I2C2_SCL, AF16 VDDS@5 (power), AF17 SYS_XTALOUT, AF18 SYS_BOOT3, AF19 SYS_BOOT4, AF20 VSS@50 (power), AF21 SYS_BOOT6, AF22 SYS_OFF_MODE, AF23 VDDS@7 (power), AF24 SYS_NRESWARM, AF25 SYS_CLKREQ, AF26 SYS_NIRQ, AF27 POP_VSS_FT@7 (power), AF28 POP_DDR_VDD_FT@3 (power), AG2 VSS@0 (power), AG3 VSS@3 (power), AG4 MMC2_DAT2, AG5 MMC2_CMD, AG6 VSS@11 (power), AG7 ETK_D12, AG8 ETK_D14, AG9 ETK_D9, AG10 POP_VSS_FT@8 (power), AG12 ETK_D1, AG14 I2C3_SDA, AG15 POP_VSS_FT@9 (power), AG16 VSS@69 (power), AG17 CAM_D0, AG18 GPIO_114, AG19 GPIO_112, AG20 VDDS@13 (power), AG21 VDDS@15 (power), AG22 DSS_DATA0, AG23 DSS_DATA2, AG24 DSS_DATA4, AG25 SYS_CLKOUT1, AG26 SYS_BOOT1, AG27 VDDS@11 (power), AH3 MMC2_DAT5, AH4 MMC2_DAT1, AH5 MMC2_DAT0, AH6 VDDS_MEM@8 (power), AH7 ETK_D13, AH8 ETK_D15, AH9 ETK_D5, AH10 POP_FLASH_VDD_FT@3 (power), AH12 ETK_D2, AH13 POP_FLASH_VPP_FT, AH14 ETK_D7, AH15 POP_FLASH_VDD_FT@4 (power), AH17 CAM_D1, AH18 GPIO_115, AH19 GPIO_113, AH21 VSS@70 (power), AH22 DSS_DATA1, AH23 DSS_DATA3, AH24 DSS_DATA5, AH25 SYS_NRESPWRON, AH26 SYS_BOOT0, B1 SYS_IPMCSWS, B2 VSS@2 (power), B3 SDRC_A2 (out), B4 SDRC_A1 (out), B5 VDDS_MEM@6 (power), B6 SDRC_D2, B7 SDRC_DM0 (out), B8 VDDS_MEM@9 (power), B9 SDRC_D6, B10 SDRC_D17, B11 SDRC_DM2 (out), B12 VDDS_MEM@11 (power), B13 SDRC_D22, B14 SDRC_D9, B15 POP_VSS_FT@0 (power), B16 SDRC_D11, B17 SDRC_D14, B18 VDDS_MEM@15 (power), B19 SDRC_D26, B20 SDRC_D27, B21 SDRC_D30, B22 VDDS_MEM@17 (power), B23 CAM_WEN, B24 CAM_D2, B25 CAM_D10, B26 CAM_XCLKB, B27 VSS@66 (power), C1 SDRC_A8 (out), C2 SDRC_A7 (out), C3 SDRC_A6 (out), C4 SDRC_A4 (out), C5 SDRC_A3 (out), C6 SDRC_D1, C7 VSS@13 (power), C8 SDRC_D3, C9 SDRC_D4, C10 VSS@24 (power), C11 SDRC_D18, C12 SDRC_D20, C13 VSS@34 (power), C14 SDRC_D8, C15 SDRC_D10, C16 VDDS_MEM@14 (power), C17 SDRC_D13, C18 SDRC_D24, C19 VSS@49 (power), C20 SDRC_DM3 (out), C21 SDRC_D31, C22 VSS@57 (power), C23 CAM_FLD, C24 CAM_D3, C25 CAM_XCLKA, C26 CAM_D11, C27 CAM_PCLK, C28 VDDS_MEM@20 (power), D1 SDRC_A12 (out), D2 SDRC_A11 (out), D3 SDRC_A10 (out), D4 SDRC_A9 (out), D5 SDRC_A5 (out), D6 SDRC_D0, D7 VSS@12 (power), D8 VDD_CORE@3 (power), D9 VDD_CORE@5 (power), D10 VSS@23 (power), D11 SDRC_D16, D12 SDRC_D19, D13 VSS@33 (power), D14 SDRC_D23, D15 VDD_CORE@6 (power), D16 VDDS_MEM@13 (power), D17 SDRC_D12, D18 SDRC_D15, D19 VSS@48 (power), D20 SDRC_D28, D21 VSS@56 (power), D22 VDD_CORE@28 (power), D23 VDD_CORE@29 (power), D24 CAM_D4, D25 CAM_STROBE, D26 DSS_HSYNC, D27 DSS_VSYNC, D28 DSS_PCLK, E1 SDRC_A14 (out), E2 SDRC_A13 (out), E3 VSS@7 (power), E4 VSS@10 (power), E25 VDD_CORE@33 (power), E26 DSS_DATA6, E27 DSS_ACBIAS, E28 DSS_DATA20, F1 VDDS_MEM@2 (power), F2 VDDS_MEM@4 (power), F3 GPMC_NADV_ALE (out), F4 GPMC_NWE (out), F25 VDDS@9 (power), F26 VDDS@10 (power), F27 DSS_DATA8, F28 DSS_DATA7, G1 VPP, G2 GPMC_NOE (out), G3 GPMC_NBE0_CLE, G4 GPMC_NCS0 (out), G25 DSS_DATA16, G26 DSS_DATA9, G27 VSS@65 (power), G28 VDDS_MEM@19 (power), H1 GPMC_NWP, H2 GPMC_D8, H3 GPMC_NCS1, H4 VDD_CORE@2 (power), H9 SDRC_BA0 (out), H10 SDRC_BA1 (out), H11 SDRC_NCS0 (out), H12 SDRC_NCS1 (out), H13 SDRC_NCAS (out), H14 SDRC_NRAS (out), H15 SDRC_NWE (out), H16 SDRC_CKE0 (out), H17 SDRC_CKE1 (out), H18 UART3_CTS_RCTX, H19 UART3_RTS_SD, H20 UART3_RX_IRRX, H21 UART3_TX_IRTX, H25 DSS_DATA19, H26 DSS_DATA18, H27 DSS_DATA17, H28 VDDS@14 (power), J1 VDDS_MEM@1 (power), J2 VDDS_MEM@3 (power), J3 VSS@6 (power), J4 VDD_CORE@1 (power), J8 GPMC_WAIT3, J9 VDD_MPU_IVA@6 (power), J10 VDD_MPU_IVA@14 (power), J11 VDD_MPU_IVA@18 (power), J12 VSS@29 (power), J13 VSS@32 (power), J14 VDD_MPU_IVA@23 (power), J15 VDD_MPU_IVA@26 (power), J16 VSS@37 (power), J17 VSS@41 (power), J18 VDD_CORE@12 (power), J19 VDD_CORE@19 (power), J20 VDD_CORE@27 (power), J21 I2C1_SCL, J25 HDQ_SIO, J26 DSS_DATA21, J27 POP_VSS_FT@1 (power), J28 POP_DDR_VDD_FT@1 (power), K1 GPMC_D0, K2 GPMC_D9, K3 GPMC_A10, K4 GPMC_A4, K8 GPMC_WAIT2, K9 VSS@18 (power), K10 VSS@22 (power), K11 VDD_MPU_IVA@17 (power), K12 VSS@28 (power), K13 VDD_MPU_IVA@20 (power), K14 VDD_MPU_IVA@22 (power), K15 VDDS_DPLL_DLL (power), K16 VSS@36 (power), K17 VSS@40 (power), K18 VDD_CORE@11 (power), K19 VSS@47 (power), K20 VDD_CORE@26 (power), K21 I2C1_SDA, K25 VDDS_MMC1 (power), K26 MCBSP1_FSX, K27 CAM_D8, K28 CAM_D6, L1 GPMC_D1, L2 GPMC_D2, L3 GPMC_A9, L4 GPMC_A3, L8 GPMC_WAIT1, L9 VDD_MPU_IVA@5 (power), L10 VDD_MPU_IVA@13 (power), L19 VSS@46 (power), L20 VSS@55 (power), L21 CAP_VDD_SRAM_CORE (power), L25 VDD_CORE@32 (power), L26 VSS@63 (power), L27 CAM_D9, L28 CAM_D7, M1 POP_DDR_VDD_FT@2 (power), M2 POP_VSS_FT@2 (power), M3 GPMC_A8, M4 GPMC_A2, M8 GPMC_WAIT0, M9 VDD_MPU_IVA@4 (power), M10 VDD_MPU_IVA@12 (power), M19 VDD_CORE@18 (power), M20 VSS@54 (power), M21 MCBSP2_DX, M25 VDD_CORE@31 (power), M26 POP_VSS_FT@3 (power), M27 MMC1_CLK, M28 VSS@68 (power), N1 POP_FLASH_VDD_FT@0 (power), N2 POP_VSS_FT@4 (power), N3 GPMC_A7, N4 GPMC_A1, N8 GPMC_NCS7, N9 VSS@17 (power), N10 VDD_MPU_IVA@11 (power), N19 VDD_CORE@17 (power), N20 VDD_CORE@25 (power), N21 MCBSP2_CLKX, N25 MMC1_DAT2, N26 MMC1_DAT1, N27 MMC1_DAT0, N28 MMC1_CMD, P1 GPMC_D10, P2 GPMC_D3, P3 VSS@5 (power), P4 VSS@9 (power), P8 GPMC_NCS6, P9 VSS@16 (power), P10 VSS@21 (power), P19 VSS@45 (power), P20 VDD_CORE@24 (power), P21 MCBSP2_FSX, P25 VDDS@16 (power), P26 MMC1_DAT5, P27 MMC1_DAT4, P28 MMC1_DAT3, R1 GPMC_D11, R2 GPMC_D12, R3 GPMC_A6, R4 VDDS_MEM@5 (power), R8 GPMC_NCS5, R9 VDD_MPU_IVA@3 (power), R10 VDD_MPU_IVA@10 (power), R19 VSS@44 (power), R20 VSS@53 (power), R21 MCBSP2_DR, R25 MMC1_DAT7, R26 VSS@62 (power), R27 MMC1_DAT6, R28 HSUSB0_DIR, T1 GPMC_D4, T2 GPMC_D13, T3 GPMC_A5, T4 GPMC_CLK, T8 GPMC_NCS4, T9 VDD_MPU_IVA@2 (power), T10 VDD_MPU_IVA@9 (power), T19 VDD_CORE@16 (power), T20 VSS@52 (power), T21 MCBSP_CLKS, T25 HSUSB0_STP, T26 HSUSB0_NXT, T27 HSUSB0_DATA0, T28 HSUSB0_CLK, U1 VDDS_MEM@0 (power), U2 VSS@1 (power), U3 GPMC_NBE1, U4 BG_TESTOUT, U8 GPMC_NCS3, U9 VSS@15 (power), U10 VDD_MPU_IVA@8 (power), U19 VDD_CORE@15 (power), U20 VDD_CORE@23 (power), U21 MCBSP1_DR, U25 HSUSB0_DATA4, U26 HSUSB0_DATA3, U27 HSUSB0_DATA2, U28 HSUSB0_DATA1, V1 GPMC_D5, V2 GPMC_D6, V3 MCSPI2_CS1, V4 CAP_VDD_SRAM_MPU_IVA (power), V8 GPMC_NCS2, V9 VSS@14 (power), V10 VSS@20 (power), V19 VSS@43 (power), V20 VDD_CORE@22 (power), V21 MCBSP1_DX, V25 VDDA_DAC (power), V26 HSUSB0_DATA7, V27 HSUSB0_DATA6, V28 HSUSB0_DATA5, W1 GPMC_D14, W2 GPMC_D7, W3 VSS@4 (power), W4 VDDS@2 (power), W8 UART1_CTS, W9 VDD_MPU_IVA@1 (power), W10 VSS@19 (power), W11 VDD_MPU_IVA@16 (power), W12 VDD_MPU_IVA@19 (power), W13 VSS@31 (power), W14 VSS@35 (power), W15 VDD_MPU_IVA@25 (power), W16 VDDS_SRAM (power), W17 VSS@39 (power), W18 VDD_CORE@10 (power), W19 VSS@42 (power), W20 VDD_CORE@21 (power), W21 MCBSP1_CLKX, W25 VSS@60 (power), W26 TV_VREF, W27 TV_VFB2, W28 TV_OUT2, Y1 GPMC_D15, Y2 MCSPI2_SIMO, Y3 MCSPI2_SOMI, Y4 MCSPI2_CS0, Y8 UART1_RX, Y9 VDD_MPU_IVA@0 (power), Y10 VDD_MPU_IVA@7 (power), Y11 VDD_MPU_IVA@15 (power), Y12 VSS@27 (power), Y13 VSS@30 (power), Y14 VDD_MPU_IVA@21 (power), Y15 VDD_MPU_IVA@24 (power), Y16 VDD_CORE@7 (power), Y17 VSS@38 (power), Y18 VDD_CORE@9 (power), Y19 VDD_CORE@14 (power), Y20 VDD_CORE@20 (power), Y21 MCBSP1_CLKR, Y25 VSS@59 (power), Y26 VSSA_DAC (power), Y27 TV_VFB1, Y28 TV_OUT1

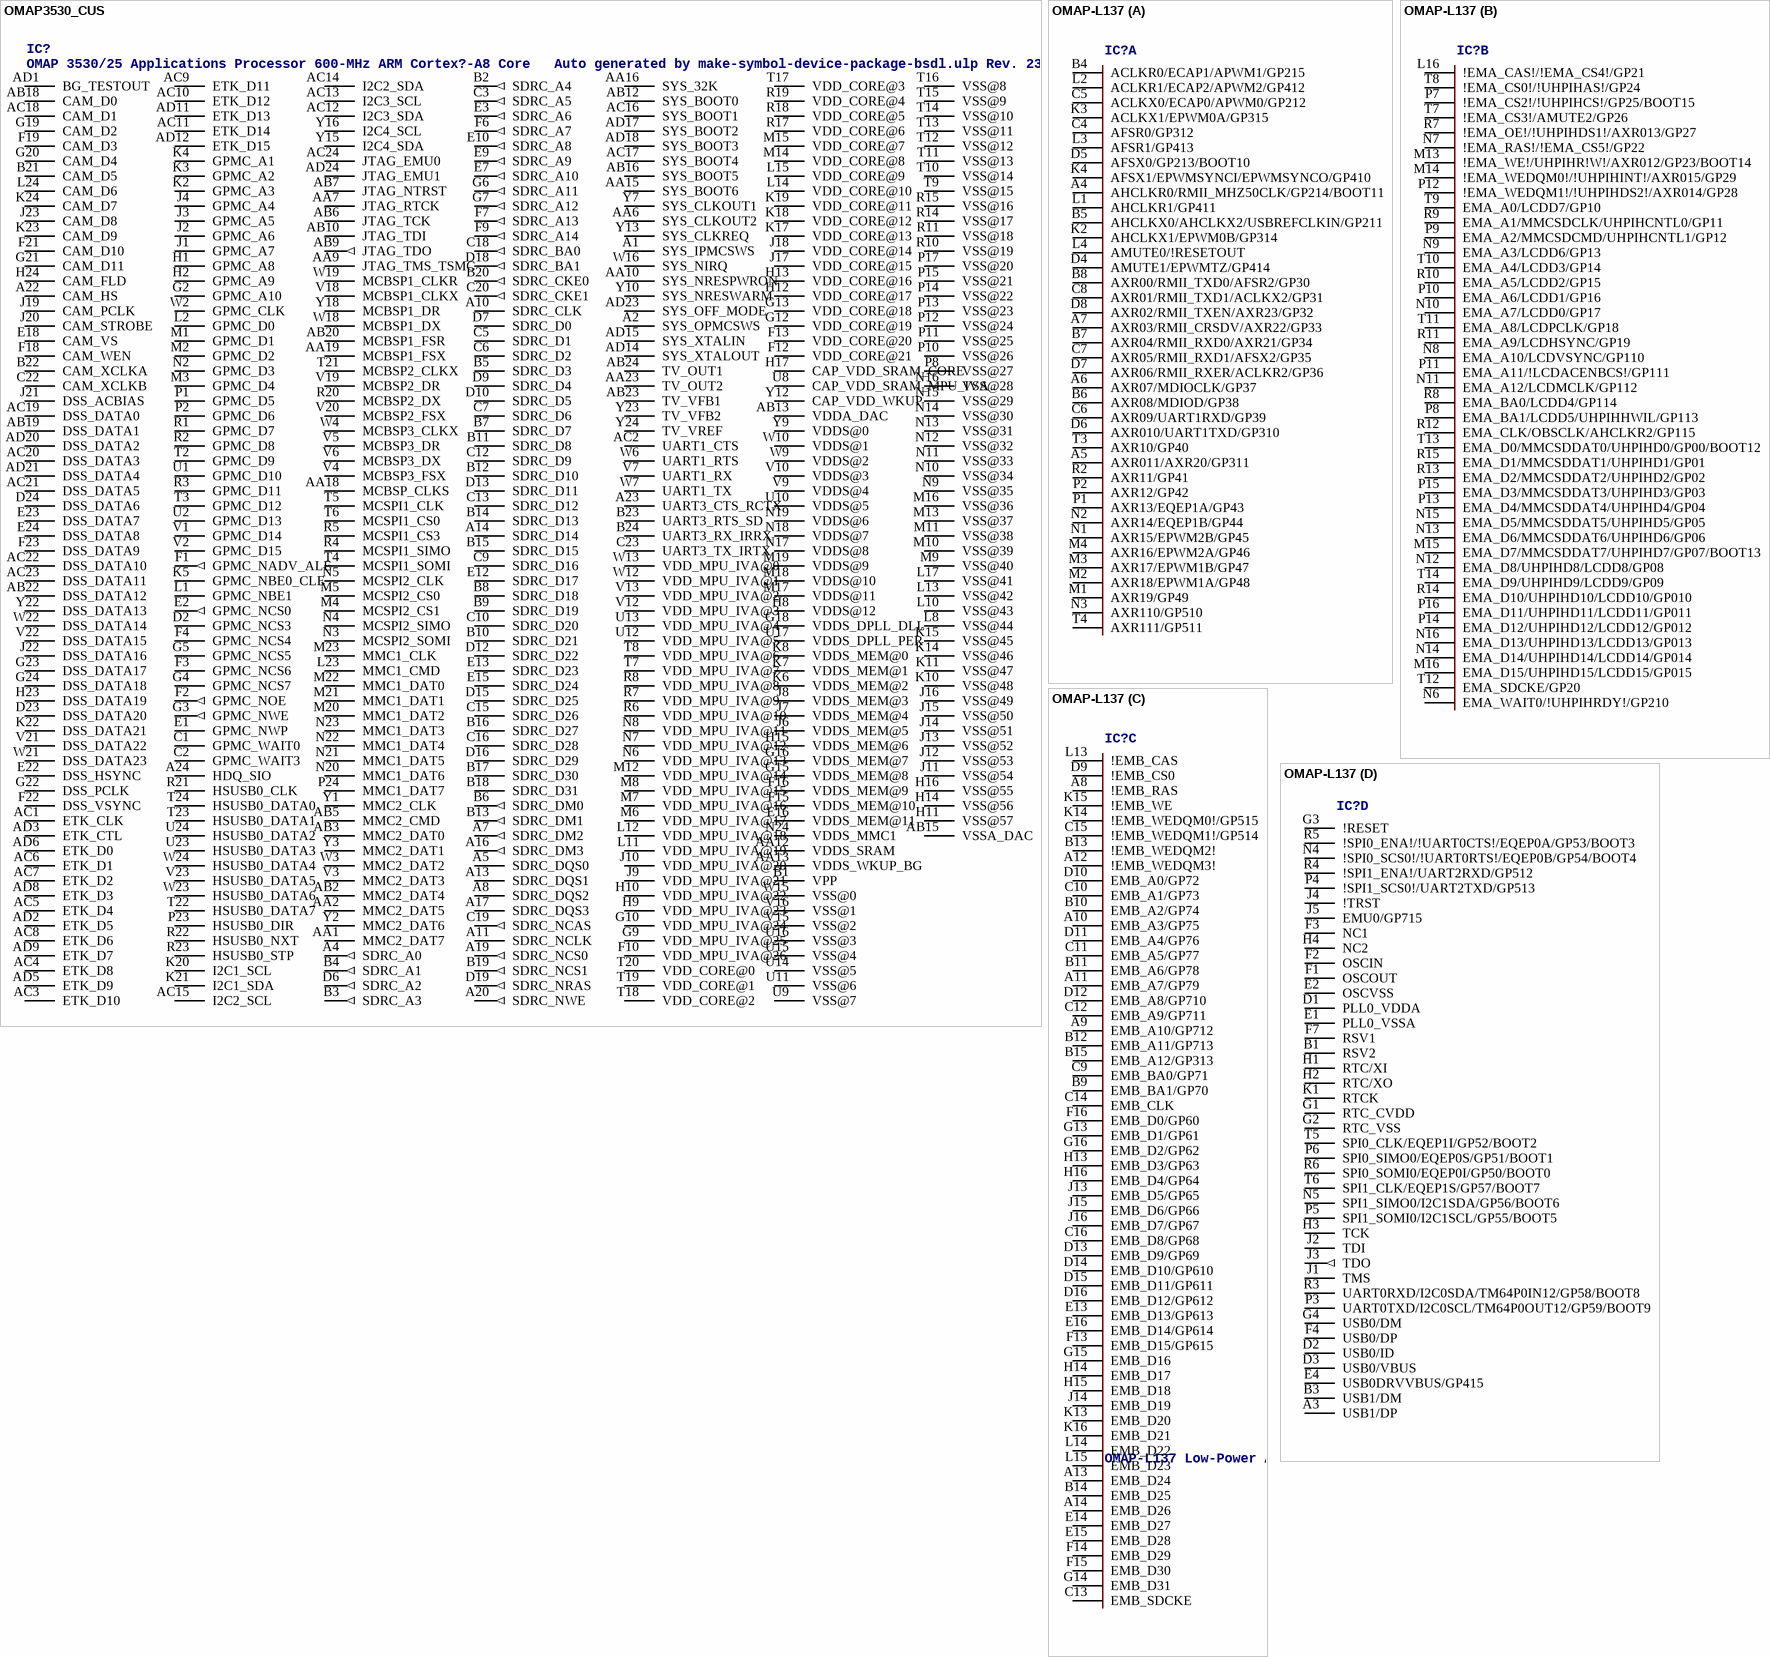
[diagram p14: symbols OMAP3530_CUS to OMAP-L137]

## OMAP3530_CUS
designator IC?, comment OMAP 3530/25 Applications Processor 600-MHz ARM Cortex?-A8 Core   Auto generated by make-symbol-device-package-bsdl.ulp Rev. 23 Source: sprm314.bsd
OC_FARNELL: unknown; OC_NEWARK: unknown
footprint CUS
pins: A1 SYS_IPMCSWS, A2 SYS_OPMCSWS, A4 SDRC_A0 (out), A5 SDRC_DQS0, A7 SDRC_DM2 (out), A8 SDRC_DQS2, A10 SDRC_CLK, A11 SDRC_NCLK, A13 SDRC_DQS1, A14 SDRC_D14, A16 SDRC_DM3 (out), A17 SDRC_DQS3, A19 SDRC_NCS0 (out), A20 SDRC_NWE (out), A22 CAM_HS, A23 UART3_CTS_RCTX, A24 HDQ_SIO, AA1 MMC2_DAT7, AA2 MMC2_DAT5, AA6 SYS_CLKOUT2, AA7 JTAG_RTCK, AA9 JTAG_TMS_TSMC, AA10 SYS_NRESPWRON, AA12 VDDS_SRAM (power), AA13 VDDS_WKUP_BG (power), AA15 SYS_BOOT6, AA16 SYS_32K, AA18 MCBSP_CLKS, AA19 MCBSP1_FSX, AA23 TV_OUT2, AB2 MMC2_DAT4, AB3 MMC2_DAT0, AB5 MMC2_CMD, AB6 JTAG_TCK, AB7 JTAG_NTRST, AB9 JTAG_TDO (out), AB10 JTAG_TDI, AB12 SYS_BOOT0, AB13 VDDA_DAC (power), AB15 VSSA_DAC (power), AB16 SYS_BOOT5, AB18 CAM_D0, AB19 DSS_DATA1, AB20 MCBSP1_FSR, AB22 DSS_DATA12, AB23 TV_VFB1, AB24 TV_OUT1, AC1 ETK_CLK, AC2 UART1_CTS, AC3 ETK_D10, AC4 ETK_D8, AC5 ETK_D4, AC6 ETK_D1, AC7 ETK_D2, AC8 ETK_D6, AC9 ETK_D11, AC10 ETK_D12, AC11 ETK_D14, AC12 I2C3_SDA, AC13 I2C3_SCL, AC14 I2C2_SDA, AC15 I2C2_SCL, AC16 SYS_BOOT1, AC17 SYS_BOOT4, AC18 CAM_D1, AC19 DSS_DATA0, AC20 DSS_DATA3, AC21 DSS_DATA5, AC22 DSS_DATA10, AC23 DSS_DATA11, AC24 JTAG_EMU0, AD1 BG_TESTOUT, AD2 ETK_D5, AD3 ETK_CTL, AD5 ETK_D9, AD6 ETK_D0, AD8 ETK_D3, AD9 ETK_D7, AD11 ETK_D13, AD12 ETK_D15, AD14 SYS_XTALOUT, AD15 SYS_XTALIN, AD17 SYS_BOOT2, AD18 SYS_BOOT3, AD20 DSS_DATA2, AD21 DSS_DATA4, AD23 SYS_OFF_MODE, AD24 JTAG_EMU1, B1 VPP, B2 SDRC_A4 (out), B3 SDRC_A3 (out), B4 SDRC_A1 (out), B5 SDRC_D3, B6 SDRC_DM0 (out), B7 SDRC_D7, B8 SDRC_D18, B9 SDRC_D19, B10 SDRC_D21, B11 SDRC_D8, B12 SDRC_D10, B13 SDRC_DM1 (out), B14 SDRC_D13, B15 SDRC_D15, B16 SDRC_D27, B17 SDRC_D30, B18 SDRC_D31, B19 SDRC_NCS1 (out), B20 SDRC_CKE0 (out), B21 CAM_D5, B22 CAM_XCLKA, B23 UART3_RTS_SD, B24 UART3_RX_IRRX, C1 GPMC_WAIT0, C2 GPMC_WAIT3, C3 SDRC_A5 (out), C5 SDRC_D1, C6 SDRC_D2, C7 SDRC_D6, C9 SDRC_D16, C10 SDRC_D20, C12 SDRC_D9, C13 SDRC_D12, C15 SDRC_D26, C16 SDRC_D28, C18 SDRC_BA0 (out), C19 SDRC_NCAS (out), C20 SDRC_CKE1 (out), C22 CAM_XCLKB, C23 UART3_TX_IRTX, D2 GPMC_NCS3, D6 SDRC_A2 (out), D7 SDRC_D0, D9 SDRC_D4, D10 SDRC_D5, D12 SDRC_D22, D13 SDRC_D11, D15 SDRC_D25, D16 SDRC_D29, D18 SDRC_BA1 (out), D19 SDRC_NRAS (out), D23 DSS_DATA20, D24 DSS_DATA6, E1 GPMC_NWP, E2 GPMC_NCS0 (out), E3 SDRC_A6 (out), E7 SDRC_A10 (out), E9 SDRC_A9 (out), E10 SDRC_A8 (out), E12 SDRC_D17, E13 SDRC_D23, E15 SDRC_D24, E16 VDDS_MEM@11 (power), E18 CAM_VS, E22 DSS_HSYNC, E23 DSS_DATA7, E24 DSS_DATA8, F1 GPMC_NADV_ALE (out), F2 GPMC_NOE (out), F3 GPMC_NCS6, F4 GPMC_NCS4, F6 SDRC_A7 (out), F7 SDRC_A13 (out), F9 SDRC_A14 (out), F10 VDD_MPU_IVA@26 (power), F12 VDD_CORE@21 (power), F13 VDD_CORE@20 (power), F15 VDDS_MEM@10 (power), F16 VDDS_MEM@9 (power), F18 CAM_WEN, F19 CAM_D3, F21 CAM_D10, F22 DSS_VSYNC, F23 DSS_DATA9, G2 GPMC_A10, G3 GPMC_NWE (out), G4 GPMC_NCS7, G5 GPMC_NCS5, G6 SDRC_A11 (out), G7 SDRC_A12 (out), G9 VDD_MPU_IVA@25 (power), G10 VDD_MPU_IVA@24 (power), G12 VDD_CORE@19 (power), G13 VDD_CORE@18 (power), G15 VDDS_MEM@8 (power), G16 VDDS_MEM@7 (power), G18 VDDS_DPLL_DLL (power), G19 CAM_D2, G20 CAM_D4, G21 CAM_D11, G22 DSS_PCLK, G23 DSS_DATA17, G24 DSS_DATA18, H1 GPMC_A8, H2 GPMC_A9, H8 VDDS@12 (power), H9 VDD_MPU_IVA@23 (power), H10 VDD_MPU_IVA@22 (power), H11 VSS@57 (power), H12 VDD_CORE@17 (power), H13 VDD_CORE@16 (power), H14 VSS@56 (power), H15 VDDS_MEM@6 (power), H16 VSS@55 (power), H17 CAP_VDD_SRAM_CORE (power), H23 DSS_DATA19, H24 CAM_FLD, J1 GPMC_A7, J2 GPMC_A6, J3 GPMC_A5, J4 GPMC_A4, J6 VDDS_MEM@5 (power), J7 VDDS_MEM@4 (power), J8 VDDS_MEM@3 (power), J9 VDD_MPU_IVA@21 (power), J10 VDD_MPU_IVA@20 (power), J11 VSS@54 (power), J12 VSS@53 (power), J13 VSS@52 (power), J14 VSS@51 (power), J15 VSS@50 (power), J16 VSS@49 (power), J17 VDD_CORE@15 (power), J18 VDD_CORE@14 (power), J19 CAM_PCLK, J20 CAM_STROBE, J21 DSS_ACBIAS, J22 DSS_DATA16, J23 CAM_D8, K2 GPMC_A3, K3 GPMC_A2, K4 GPMC_A1, K5 GPMC_NBE0_CLE, K6 VDDS_MEM@2 (power), K7 VDDS_MEM@1 (power), K8 VDDS_MEM@0 (power), K10 VSS@48 (power), K11 VSS@47 (power), K14 VSS@46 (power), K15 VSS@45 (power), K17 VDD_CORE@13 (power), K18 VDD_CORE@12 (power), K19 VDD_CORE@11 (power), K20 I2C1_SCL, K21 I2C1_SDA, K22 DSS_DATA21, K23 CAM_D9, K24 CAM_D7, L1 GPMC_NBE1, L2 GPMC_D0, L8 VSS@44 (power), L10 VSS@43 (power), L11 VDD_MPU_IVA@19 (power), L12 VDD_MPU_IVA@18 (power), L13 VSS@42 (power), L14 VDD_CORE@10 (power), L15 VDD_CORE@9 (power), L17 VSS@41 (power), L23 MMC1_CMD, L24 CAM_D6, M1 GPMC_D1, M2 GPMC_D2, M3 GPMC_D4, M4 MCSPI2_CS1, M5 MCSPI2_CS0, M6 VDD_MPU_IVA@17 (power), M7 VDD_MPU_IVA@16 (power), M8 VDD_MPU_IVA@15 (power), M9 VSS@40 (power), M10 VSS@39 (power), M11 VSS@38 (power), M12 VDD_MPU_IVA@14 (power), M13 VSS@37 (power), M14 VDD_CORE@8 (power), M15 VDD_CORE@7 (power), M16 VSS@36 (power), M17 VDDS@11 (power), M18 VDDS@10 (power), M19 VDDS@9 (power), M20 MMC1_DAT2, M21 MMC1_DAT1, M22 MMC1_DAT0, M23 MMC1_CLK, N2 GPMC_D3, N3 MCSPI2_SOMI, N4 MCSPI2_SIMO, N5 MCSPI2_CLK, N6 VDD_MPU_IVA@13 (power), N7 VDD_MPU_IVA@12 (power), N8 VDD_MPU_IVA@11 (power), N9 VSS@35 (power), N10 VSS@34 (power), N11 VSS@33 (power), N12 VSS@32 (power), N13 VSS@31 (power), N14 VSS@30 (power), N15 VSS@29 (power), N16 VSS@28 (power), N17 VDDS@8 (power), N18 VDDS@7 (power), N19 VDDS@6 (power), N20 MMC1_DAT6, N21 MMC1_DAT5, N22 MMC1_DAT4, N23 MMC1_DAT3, N24 VDDS_MMC1 (power), P1 GPMC_D5, P2 GPMC_D6, P8 VSS@27 (power), P10 VSS@26 (power), P11 VSS@25 (power), P12 VSS@24 (power), P13 VSS@23 (power), P14 VSS@22 (power), P15 VSS@21 (power), P17 VSS@20 (power), P23 HSUSB0_DIR, P24 MMC1_DAT7, R1 GPMC_D7, R2 GPMC_D8, R3 GPMC_D11, R4 MCSPI1_SIMO, R5 MCSPI1_CS3, R6 VDD_MPU_IVA@10 (power), R7 VDD_MPU_IVA@9 (power), R8 VDD_MPU_IVA@8 (power), R10 VSS@19 (power), R11 VSS@18 (power), R14 VSS@17 (power), R15 VSS@16 (power), R17 VDD_CORE@6 (power), R18 VDD_CORE@5 (power), R19 VDD_CORE@4 (power), R20 MCBSP2_DX, R21 HSUSB0_CLK, R22 HSUSB0_NXT, R23 HSUSB0_STP, T2 GPMC_D9, T3 GPMC_D12, T4 MCSPI1_SOMI, T5 MCSPI1_CLK, T6 MCSPI1_CS0, T7 VDD_MPU_IVA@7 (power), T8 VDD_MPU_IVA@6 (power), T9 VSS@15 (power), T10 VSS@14 (power), T11 VSS@13 (power), T12 VSS@12 (power), T13 VSS@11 (power), T14 VSS@10 (power), T15 VSS@9 (power), T16 VSS@8 (power), T17 VDD_CORE@3 (power), T18 VDD_CORE@2 (power), T19 VDD_CORE@1 (power), T20 VDD_CORE@0 (power), T21 MCBSP2_CLKX, T22 HSUSB0_DATA7, T23 HSUSB0_DATA1, T24 HSUSB0_DATA0, U1 GPMC_D10, U2 GPMC_D13, U8 CAP_VDD_SRAM_MPU_IVA (power), U9 VSS@7 (power), U10 VDDS@5 (power), U11 VSS@6 (power), U12 VDD_MPU_IVA@5 (power), U13 VDD_MPU_IVA@4 (power), U14 VSS@5 (power), U15 VSS@4 (power), U16 VSS@3 (power), U17 VDDS_DPLL_PER (power), U23 HSUSB0_DATA3, U24 HSUSB0_DATA2, V1 GPMC_D14, V2 GPMC_D15, V3 MMC2_DAT3, V4 MCBSP3_FSX, V5 MCBSP3_DR, V6 MCBSP3_DX, V7 UART1_RX, V9 VDDS@4 (power), V10 VDDS@3 (power), V12 VDD_MPU_IVA@3 (power), V13 VDD_MPU_IVA@2 (power), V15 VSS@2 (power), V16 VSS@1 (power), V18 MCBSP1_CLKX, V19 MCBSP2_DR, V20 MCBSP2_FSX, V21 DSS_DATA22, V22 DSS_DATA15, V23 HSUSB0_DATA5, W2 GPMC_CLK, W3 MMC2_DAT2, W4 MCBSP3_CLKX, W6 UART1_RTS, W7 UART1_TX, W9 VDDS@2 (power), W10 VDDS@1 (power), W12 VDD_MPU_IVA@1 (power), W13 VDD_MPU_IVA@0 (power), W15 VSS@0 (power), W16 SYS_NIRQ, W18 MCBSP1_DX, W19 MCBSP1_CLKR, W21 DSS_DATA23, W22 DSS_DATA14, W23 HSUSB0_DATA6, W24 HSUSB0_DATA4, Y1 MMC2_CLK, Y2 MMC2_DAT6, Y3 MMC2_DAT1, Y7 SYS_CLKOUT1, Y9 VDDS@0 (power), Y10 SYS_NRESWARM, Y12 CAP_VDD_WKUP (power), Y13 SYS_CLKREQ, Y15 I2C4_SDA, Y16 I2C4_SCL, Y18 MCBSP1_DR, Y22 DSS_DATA13, Y23 TV_VFB2, Y24 TV_VREF

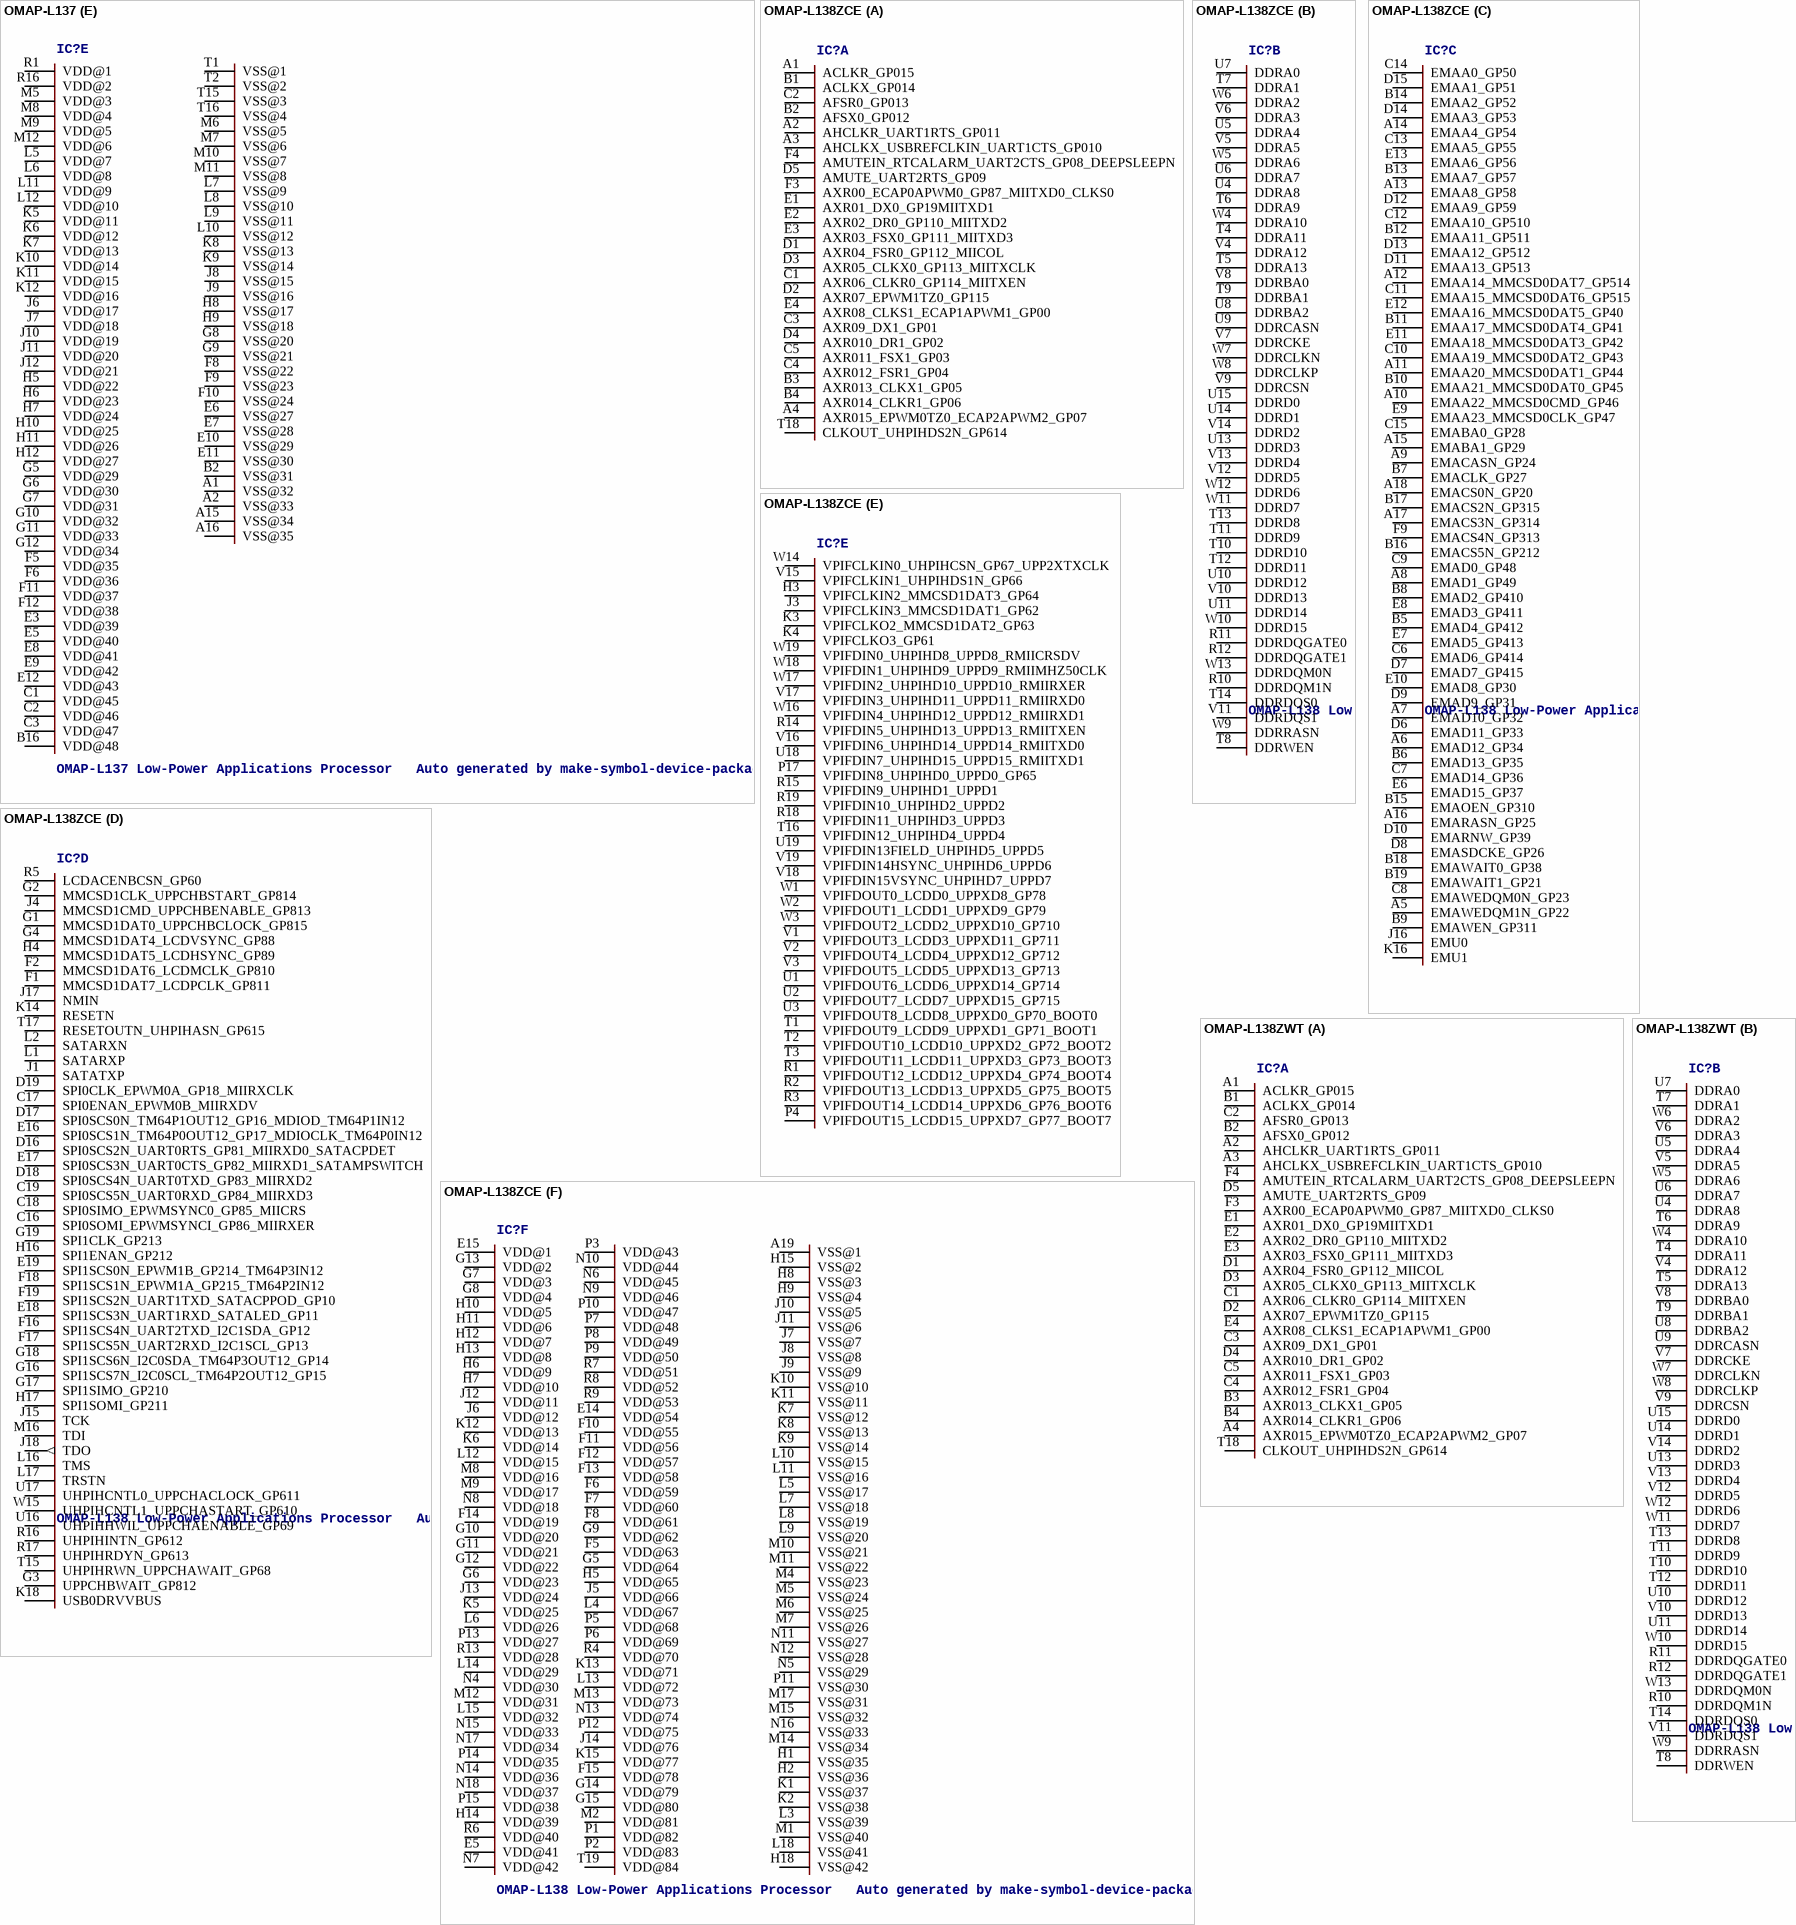
[diagram p15: symbols OMAP-L137 to OMAP-L138ZWT]

## OMAP-L137
designator IC?, comment OMAP-L137 Low-Power Applications Processor   Auto generated by make-symbol-device-package-bsdl.ulp Rev. 29 Source: sprm328.bsm http://focus.ti.com/lit/ds/symlink/omap-l137.pdf
MPN: OMAP-L137 EVAL; OC_FARNELL: 1831923; OC_NEWARK: 78R2891
footprint ZKB_S-PBGA-N256
part A pins: A4 AHCLKR0/RMII_MHZ50CLK/GP214/BOOT11, A5 AXR011/AXR20/GP311, A6 AXR07/MDIOCLK/GP37, A7 AXR03/RMII_CRSDV/AXR22/GP33, B4 ACLKR0/ECAP1/APWM1/GP215, B5 AHCLKX0/AHCLKX2/USBREFCLKIN/GP211, B6 AXR08/MDIOD/GP38, B7 AXR04/RMII_RXD0/AXR21/GP34, B8 AXR00/RMII_TXD0/AFSR2/GP30, C4 AFSR0/GP312, C5 ACLKX0/ECAP0/APWM0/GP212, C6 AXR09/UART1RXD/GP39, C7 AXR05/RMII_RXD1/AFSX2/GP35, C8 AXR01/RMII_TXD1/ACLKX2/GP31, D4 AMUTE1/EPWMTZ/GP414, D5 AFSX0/GP213/BOOT10, D6 AXR010/UART1TXD/GP310, D7 AXR06/RMII_RXER/ACLKR2/GP36, D8 AXR02/RMII_TXEN/AXR23/GP32, K2 AHCLKX1/EPWM0B/GP314, K3 ACLKX1/EPWM0A/GP315, K4 AFSX1/EPWMSYNCI/EPWMSYNCO/GP410, L1 AHCLKR1/GP411, L2 ACLKR1/ECAP2/APWM2/GP412, L3 AFSR1/GP413, L4 AMUTE0/!RESETOUT, M1 AXR19/GP49, M2 AXR18/EPWM1A/GP48, M3 AXR17/EPWM1B/GP47, M4 AXR16/EPWM2A/GP46, N1 AXR15/EPWM2B/GP45, N2 AXR14/EQEP1B/GP44, N3 AXR110/GP510, P1 AXR13/EQEP1A/GP43, P2 AXR12/GP42, R2 AXR11/GP41, T3 AXR10/GP40, T4 AXR111/GP511
part B pins: L16 !EMA_CAS!/!EMA_CS4!/GP21, M13 !EMA_WE!/UHPIHR!W!/AXR012/GP23/BOOT14, M14 !EMA_WEDQM0!/!UHPIHINT!/AXR015/GP29, M15 EMA_D7/MMCSDDAT7/UHPIHD7/GP07/BOOT13, M16 EMA_D15/UHPIHD15/LCDD15/GP015, N6 EMA_WAIT0/!UHPIHRDY!/GP210, N7 !EMA_RAS!/!EMA_CS5!/GP22, N8 EMA_A10/LCDVSYNC/GP110, N9 EMA_A3/LCDD6/GP13, N10 EMA_A7/LCDD0/GP17, N11 EMA_A12/LCDMCLK/GP112, N12 EMA_D8/UHPIHD8/LCDD8/GP08, N13 EMA_D6/MMCSDDAT6/UHPIHD6/GP06, N14 EMA_D14/UHPIHD14/LCDD14/GP014, N15 EMA_D5/MMCSDDAT5/UHPIHD5/GP05, N16 EMA_D13/UHPIHD13/LCDD13/GP013, P7 !EMA_CS2!/!UHPIHCS!/GP25/BOOT15, P8 EMA_BA1/LCDD5/UHPIHHWIL/GP113, P9 EMA_A2/MMCSDCMD/UHPIHCNTL1/GP12, P10 EMA_A6/LCDD1/GP16, P11 EMA_A11/!LCDACENBCS!/GP111, P12 !EMA_WEDQM1!/!UHPIHDS2!/AXR014/GP28, P13 EMA_D4/MMCSDDAT4/UHPIHD4/GP04, P14 EMA_D12/UHPIHD12/LCDD12/GP012, P15 EMA_D3/MMCSDDAT3/UHPIHD3/GP03, P16 EMA_D11/UHPIHD11/LCDD11/GP011, R7 !EMA_OE!/!UHPIHDS1!/AXR013/GP27, R8 EMA_BA0/LCDD4/GP114, R9 EMA_A1/MMCSDCLK/UHPIHCNTL0/GP11, R10 EMA_A5/LCDD2/GP15, R11 EMA_A9/LCDHSYNC/GP19, R12 EMA_CLK/OBSCLK/AHCLKR2/GP115, R13 EMA_D2/MMCSDDAT2/UHPIHD2/GP02, R14 EMA_D10/UHPIHD10/LCDD10/GP010, R15 EMA_D1/MMCSDDAT1/UHPIHD1/GP01, T7 !EMA_CS3!/AMUTE2/GP26, T8 !EMA_CS0!/!UHPIHAS!/GP24, T9 EMA_A0/LCDD7/GP10, T10 EMA_A4/LCDD3/GP14, T11 EMA_A8/LCDPCLK/GP18, T12 EMA_SDCKE/GP20, T13 EMA_D0/MMCSDDAT0/UHPIHD0/GP00/BOOT12, T14 EMA_D9/UHPIHD9/LCDD9/GP09
part C pins: A8 !EMB_RAS, A9 EMB_A10/GP712, A10 EMB_A3/GP75, A11 EMB_A7/GP79, A12 !EMB_WEDQM3!, A13 EMB_D24, A14 EMB_D26, B9 EMB_BA1/GP70, B10 EMB_A2/GP74, B11 EMB_A6/GP78, B12 EMB_A11/GP713, B13 !EMB_WEDQM2!, B14 EMB_D25, B15 EMB_A12/GP313, C9 EMB_BA0/GP71, C10 EMB_A1/GP73, C11 EMB_A5/GP77, C12 EMB_A9/GP711, C13 EMB_SDCKE, C14 EMB_CLK, C15 !EMB_WEDQM1!/GP514, C16 EMB_D8/GP68, D9 !EMB_CS0, D10 EMB_A0/GP72, D11 EMB_A4/GP76, D12 EMB_A8/GP710, D13 EMB_D9/GP69, D14 EMB_D10/GP610, D15 EMB_D11/GP611, D16 EMB_D12/GP612, E13 EMB_D13/GP613, E14 EMB_D27, E15 EMB_D28, E16 EMB_D14/GP614, F13 EMB_D15/GP615, F14 EMB_D29, F15 EMB_D30, F16 EMB_D0/GP60, G13 EMB_D1/GP61, G14 EMB_D31, G15 EMB_D16, G16 EMB_D2/GP62, H13 EMB_D3/GP63, H14 EMB_D17, H15 EMB_D18, H16 EMB_D4/GP64, J13 EMB_D5/GP65, J14 EMB_D19, J15 EMB_D6/GP66, J16 EMB_D7/GP67, K13 EMB_D20, K14 !EMB_WEDQM0!/GP515, K15 !EMB_WE, K16 EMB_D21, L13 !EMB_CAS, L14 EMB_D22, L15 EMB_D23
part D pins: A3 USB1/DP, B1 RSV2, B3 USB1/DM, D1 PLL0_VDDA (power), D2 USB0/ID, D3 USB0/VBUS, E1 PLL0_VSSA (power), E2 OSCVSS (power), E4 USB0DRVVBUS/GP415, F1 OSCOUT, F2 OSCIN, F3 NC1, F4 USB0/DP, F7 RSV1, G1 RTC_CVDD (power), G2 RTC_VSS (power), G3 !RESET, G4 USB0/DM, H1 RTC/XI, H2 RTC/XO, H3 TCK, H4 NC2, J1 TMS, J2 TDI, J3 TDO (out), J4 !TRST, J5 EMU0/GP715, K1 RTCK, N4 !SPI0_SCS0!/!UART0RTS!/EQEP0B/GP54/BOOT4, N5 SPI1_SIMO0/I2C1SDA/GP56/BOOT6, P3 UART0TXD/I2C0SCL/TM64P0OUT12/GP59/BOOT9, P4 !SPI1_SCS0!/UART2TXD/GP513, P5 SPI1_SOMI0/I2C1SCL/GP55/BOOT5, P6 SPI0_SIMO0/EQEP0S/GP51/BOOT1, R3 UART0RXD/I2C0SDA/TM64P0IN12/GP58/BOOT8, R4 !SPI1_ENA!/UART2RXD/GP512, R5 !SPI0_ENA!/!UART0CTS!/EQEP0A/GP53/BOOT3, R6 SPI0_SOMI0/EQEP0I/GP50/BOOT0, T5 SPI0_CLK/EQEP1I/GP52/BOOT2, T6 SPI1_CLK/EQEP1S/GP57/BOOT7
part E pins: A1 VSS@32 (power), A2 VSS@33 (power), A15 VSS@34 (power), A16 VSS@35 (power), B2 VSS@31 (power), B16 VDD@48 (power), C1 VDD@45 (power), C2 VDD@46 (power), C3 VDD@47 (power), E3 VDD@39 (power), E5 VDD@40 (power), E6 VSS@27 (power), E7 VSS@28 (power), E8 VDD@41 (power), E9 VDD@42 (power), E10 VSS@29 (power), E11 VSS@30 (power), E12 VDD@43 (power), F5 VDD@35 (power), F6 VDD@36 (power), F8 VSS@22 (power), F9 VSS@23 (power), F10 VSS@24 (power), F11 VDD@37 (power), F12 VDD@38 (power), G5 VDD@29 (power), G6 VDD@30 (power), G7 VDD@31 (power), G8 VSS@20 (power), G9 VSS@21 (power), G10 VDD@32 (power), G11 VDD@33 (power), G12 VDD@34 (power), H5 VDD@22 (power), H6 VDD@23 (power), H7 VDD@24 (power), H8 VSS@17 (power), H9 VSS@18 (power), H10 VDD@25 (power), H11 VDD@26 (power), H12 VDD@27 (power), J6 VDD@17 (power), J7 VDD@18 (power), J8 VSS@15 (power), J9 VSS@16 (power), J10 VDD@19 (power), J11 VDD@20 (power), J12 VDD@21 (power), K5 VDD@11 (power), K6 VDD@12 (power), K7 VDD@13 (power), K8 VSS@13 (power), K9 VSS@14 (power), K10 VDD@14 (power), K11 VDD@15 (power), K12 VDD@16 (power), L5 VDD@7 (power), L6 VDD@8 (power), L7 VSS@9 (power), L8 VSS@10 (power), L9 VSS@11 (power), L10 VSS@12 (power), L11 VDD@9 (power), L12 VDD@10 (power), M5 VDD@3 (power), M6 VSS@5 (power), M7 VSS@6 (power), M8 VDD@4 (power), M9 VDD@5 (power), M10 VSS@7 (power), M11 VSS@8 (power), M12 VDD@6 (power), R1 VDD@1 (power), R16 VDD@2 (power), T1 VSS@1 (power), T2 VSS@2 (power), T15 VSS@3 (power), T16 VSS@4 (power)